# Altium integrated library Kondensator_DIP.IntLib: 1521 symbols (part 3 of 5)
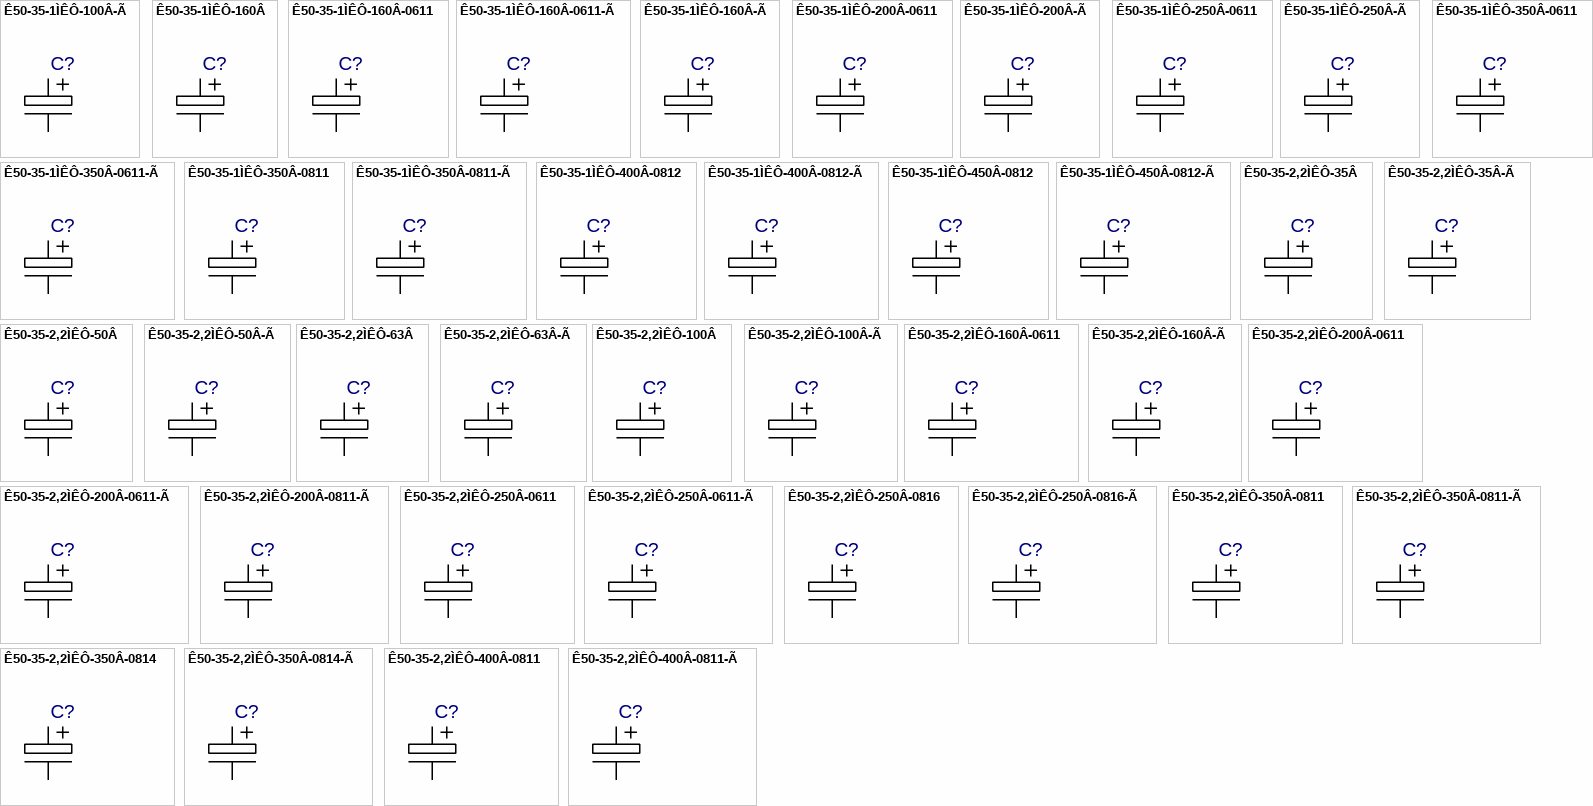
[diagram p40: symbols Ê50-35-1ÌÊÔ-100Â-Ã to Ê50-35-2,2ÌÊÔ-400Â-0811-Ã]

## Ê50-35-2,2ÌÊÔ-35Â-Ã
designator C?  (value not drawn)
Value: *
footprint Ê50-35-0511-Ã_K5035-1R
footprint Ê50-35-0511-Ã_K5035-1R1
footprint Ê50-35-0511-Ã_Primary
pins: 1, 2

## Ê50-35-2,2ÌÊÔ-50Â
designator C?  (value not drawn)
Value: *
footprint Ê50-35-0511_K5035-1R
footprint Ê50-35-0511_K5035-1R1
footprint Ê50-35-0511_Primary
pins: 1, 2

## Ê50-35-2,2ÌÊÔ-50Â-Ã
designator C?  (value not drawn)
Value: *
footprint Ê50-35-0511-Ã_K5035-1R
footprint Ê50-35-0511-Ã_K5035-1R1
footprint Ê50-35-0511-Ã_Primary
pins: 1, 2

## Ê50-35-2,2ÌÊÔ-63Â
designator C?  (value not drawn)
Value: *
footprint Ê50-35-0511_K5035-1R
footprint Ê50-35-0511_K5035-1R1
footprint Ê50-35-0511_Primary
pins: 1, 2

## Ê50-35-2,2ÌÊÔ-63Â-Ã
designator C?  (value not drawn)
Value: *
footprint Ê50-35-0511-Ã_K5035-1R
footprint Ê50-35-0511-Ã_K5035-1R1
footprint Ê50-35-0511-Ã_Primary
pins: 1, 2

## Ê50-35-2,2ÌÊÔ-100Â
designator C?  (value not drawn)
Value: *
footprint Ê50-35-0511_K5035-1R
footprint Ê50-35-0511_K5035-1R1
footprint Ê50-35-0511_Primary
pins: 1, 2

## Ê50-35-2,2ÌÊÔ-100Â-Ã
designator C?  (value not drawn)
Value: *
footprint Ê50-35-0511-Ã_K5035-1R
footprint Ê50-35-0511-Ã_K5035-1R1
footprint Ê50-35-0511-Ã_Primary
pins: 1, 2

## Ê50-35-2,2ÌÊÔ-160Â-0611
designator C?  (value not drawn)
Value: *
footprint Ê50-35-0611_K5035-1R
footprint Ê50-35-0611_K5035-1R1
footprint Ê50-35-0611_Primary
pins: 1, 2

## Ê50-35-2,2ÌÊÔ-160Â-Ã
designator C?  (value not drawn)
Value: *
footprint Ê50-35-0611-Ã_K5035-1R
footprint Ê50-35-0611-Ã_K5035-1R1
footprint Ê50-35-0611-Ã_Primary
pins: 1, 2

## Ê50-35-2,2ÌÊÔ-200Â-0611
designator C?  (value not drawn)
Value: *
footprint Ê50-35-0611_K5035-1R
footprint Ê50-35-0611_K5035-1R1
footprint Ê50-35-0611_Primary
pins: 1, 2

## Ê50-35-2,2ÌÊÔ-200Â-0611-Ã
designator C?  (value not drawn)
Value: *
footprint Ê50-35-0611-Ã_K5035-1R
footprint Ê50-35-0611-Ã_K5035-1R1
footprint Ê50-35-0611-Ã_Primary
pins: 1, 2

## Ê50-35-2,2ÌÊÔ-200Â-0811-Ã
designator C?  (value not drawn)
Value: *
footprint Ê50-35-08XX-Ã_K5035-2R
footprint Ê50-35-08XX-Ã_K5035-2R1
footprint Ê50-35-08XX-Ã_Primary
pins: 1, 2

## Ê50-35-2,2ÌÊÔ-250Â-0611
designator C?  (value not drawn)
Value: *
footprint Ê50-35-0611_K5035-1R
footprint Ê50-35-0611_K5035-1R1
footprint Ê50-35-0611_Primary
pins: 1, 2

## Ê50-35-2,2ÌÊÔ-250Â-0611-Ã
designator C?  (value not drawn)
Value: *
footprint Ê50-35-0611-Ã_K5035-1R
footprint Ê50-35-0611-Ã_K5035-1R1
footprint Ê50-35-0611-Ã_Primary
pins: 1, 2

## Ê50-35-2,2ÌÊÔ-250Â-0816
designator C?  (value not drawn)
Value: *
footprint R50-35-08XX_K5035-2R
footprint R50-35-08XX_K5035-2R1
footprint R50-35-08XX_Primary
pins: 1, 2

## Ê50-35-2,2ÌÊÔ-250Â-0816-Ã
designator C?  (value not drawn)
Value: *
footprint Ê50-35-08XX-Ã_K5035-2R
footprint Ê50-35-08XX-Ã_K5035-2R1
footprint Ê50-35-08XX-Ã_Primary
pins: 1, 2

## Ê50-35-2,2ÌÊÔ-350Â-0811
designator C?  (value not drawn)
Value: *
footprint R50-35-08XX_K5035-2R
footprint R50-35-08XX_K5035-2R1
footprint R50-35-08XX_Primary
pins: 1, 2

## Ê50-35-2,2ÌÊÔ-350Â-0811-Ã
designator C?  (value not drawn)
Value: *
footprint Ê50-35-08XX-Ã_K5035-2R
footprint Ê50-35-08XX-Ã_K5035-2R1
footprint Ê50-35-08XX-Ã_Primary
pins: 1, 2

## Ê50-35-2,2ÌÊÔ-350Â-0814
designator C?  (value not drawn)
Value: *
footprint R50-35-08XX_K5035-2R
footprint R50-35-08XX_K5035-2R1
footprint R50-35-08XX_Primary
pins: 1, 2

## Ê50-35-2,2ÌÊÔ-350Â-0814-Ã
designator C?  (value not drawn)
Value: *
footprint Ê50-35-08XX-Ã_K5035-2R
footprint Ê50-35-08XX-Ã_K5035-2R1
footprint Ê50-35-08XX-Ã_Primary
pins: 1, 2

## Ê50-35-2,2ÌÊÔ-400Â-0811
designator C?  (value not drawn)
Value: *
footprint R50-35-08XX_K5035-2R
footprint R50-35-08XX_K5035-2R1
footprint R50-35-08XX_Primary
pins: 1, 2

## Ê50-35-2,2ÌÊÔ-400Â-0811-Ã
designator C?  (value not drawn)
Value: *
footprint Ê50-35-08XX-Ã_K5035-2R
footprint Ê50-35-08XX-Ã_K5035-2R1
footprint Ê50-35-08XX-Ã_Primary
pins: 1, 2

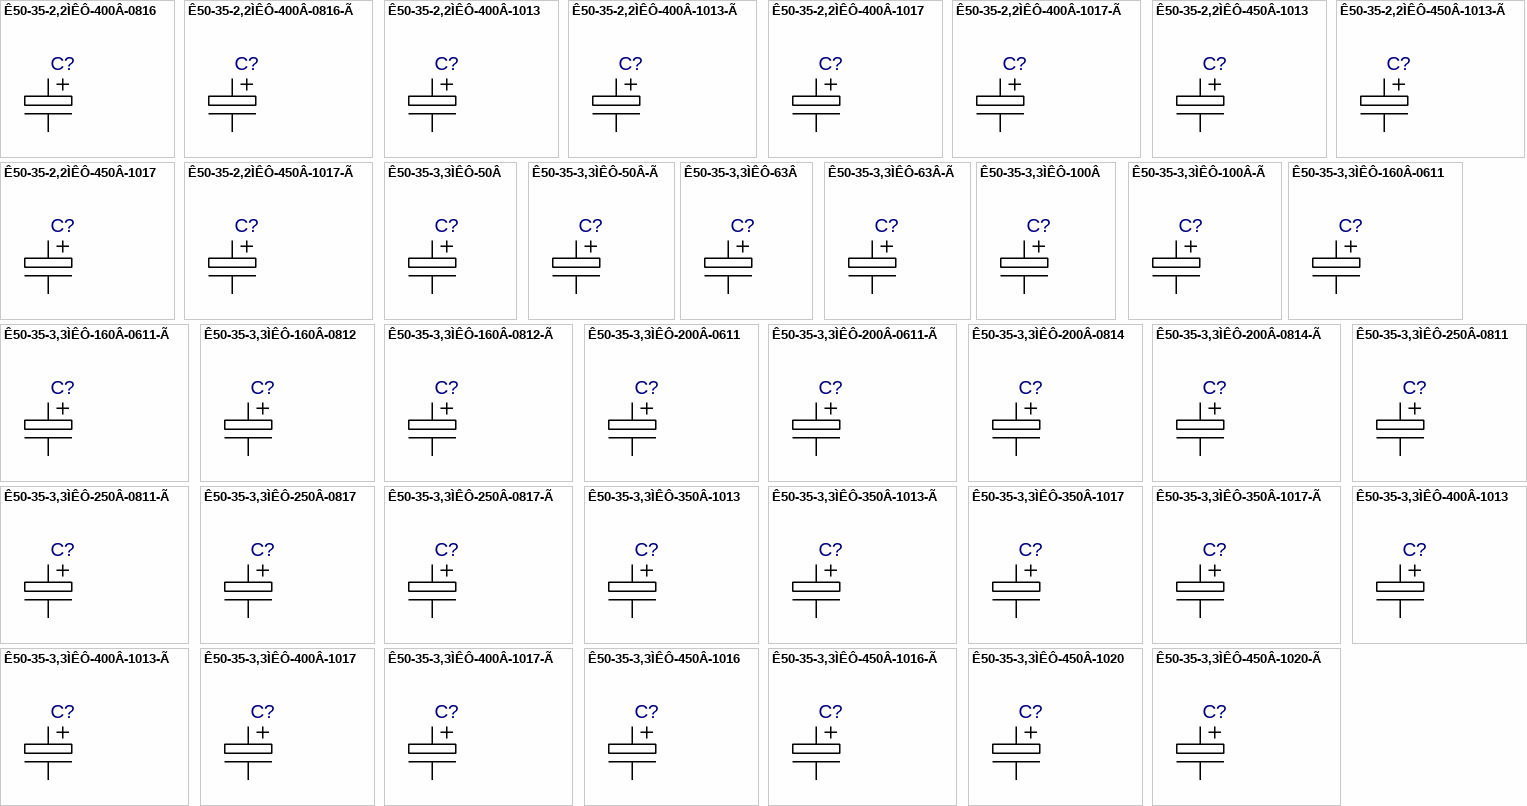
[diagram p23: symbols Ê50-35-2,2ÌÊÔ-400Â-0816 to Ê50-35-3,3ÌÊÔ-450Â-1020-Ã]

## Ê50-35-2,2ÌÊÔ-400Â-0816
designator C?  (value not drawn)
Value: *
footprint R50-35-08XX_K5035-2R
footprint R50-35-08XX_K5035-2R1
footprint R50-35-08XX_Primary
pins: 1, 2

## Ê50-35-2,2ÌÊÔ-400Â-0816-Ã
designator C?  (value not drawn)
Value: *
footprint Ê50-35-08XX-Ã_K5035-2R
footprint Ê50-35-08XX-Ã_K5035-2R1
footprint Ê50-35-08XX-Ã_Primary
pins: 1, 2

## Ê50-35-2,2ÌÊÔ-400Â-1013
designator C?  (value not drawn)
Value: *
footprint Ê50-35-1020_K5035-1R
footprint Ê50-35-1020_K5035-1R1
footprint Ê50-35-1020_Primary
pins: 1, 2

## Ê50-35-2,2ÌÊÔ-400Â-1013-Ã
designator C?  (value not drawn)
Value: *
footprint Ê50-35-1020-Ã_K5035-1R
footprint Ê50-35-1020-Ã_K5035-1R1
footprint Ê50-35-1020-Ã_Primary
pins: 1, 2

## Ê50-35-2,2ÌÊÔ-400Â-1017
designator C?  (value not drawn)
Value: *
footprint Ê50-35-1020_K5035-1R
footprint Ê50-35-1020_K5035-1R1
footprint Ê50-35-1020_Primary
pins: 1, 2

## Ê50-35-2,2ÌÊÔ-400Â-1017-Ã
designator C?  (value not drawn)
Value: *
footprint Ê50-35-1020-Ã_K5035-1R
footprint Ê50-35-1020-Ã_K5035-1R1
footprint Ê50-35-1020-Ã_Primary
pins: 1, 2

## Ê50-35-2,2ÌÊÔ-450Â-1013
designator C?  (value not drawn)
Value: *
footprint Ê50-35-1020_K5035-1R
footprint Ê50-35-1020_K5035-1R1
footprint Ê50-35-1020_Primary
pins: 1, 2

## Ê50-35-2,2ÌÊÔ-450Â-1013-Ã
designator C?  (value not drawn)
Value: *
footprint Ê50-35-1020-Ã_K5035-1R
footprint Ê50-35-1020-Ã_K5035-1R1
footprint Ê50-35-1020-Ã_Primary
pins: 1, 2

## Ê50-35-2,2ÌÊÔ-450Â-1017
designator C?  (value not drawn)
Value: *
footprint Ê50-35-1020_K5035-1R
footprint Ê50-35-1020_K5035-1R1
footprint Ê50-35-1020_Primary
pins: 1, 2

## Ê50-35-2,2ÌÊÔ-450Â-1017-Ã
designator C?  (value not drawn)
Value: *
footprint Ê50-35-1020-Ã_K5035-1R
footprint Ê50-35-1020-Ã_K5035-1R1
footprint Ê50-35-1020-Ã_Primary
pins: 1, 2

## Ê50-35-3,3ÌÊÔ-50Â
designator C?  (value not drawn)
Value: *
footprint Ê50-35-0511_K5035-1R
footprint Ê50-35-0511_K5035-1R1
footprint Ê50-35-0511_Primary
pins: 1, 2

## Ê50-35-3,3ÌÊÔ-50Â-Ã
designator C?  (value not drawn)
Value: *
footprint Ê50-35-0511-Ã_K5035-1R
footprint Ê50-35-0511-Ã_K5035-1R1
footprint Ê50-35-0511-Ã_Primary
pins: 1, 2

## Ê50-35-3,3ÌÊÔ-63Â
designator C?  (value not drawn)
Value: *
footprint Ê50-35-0511_K5035-1R
footprint Ê50-35-0511_K5035-1R1
footprint Ê50-35-0511_Primary
pins: 1, 2

## Ê50-35-3,3ÌÊÔ-63Â-Ã
designator C?  (value not drawn)
Value: *
footprint Ê50-35-0511-Ã_K5035-1R
footprint Ê50-35-0511-Ã_K5035-1R1
footprint Ê50-35-0511-Ã_Primary
pins: 1, 2

## Ê50-35-3,3ÌÊÔ-100Â
designator C?  (value not drawn)
Value: *
footprint Ê50-35-0511_K5035-1R
footprint Ê50-35-0511_K5035-1R1
footprint Ê50-35-0511_Primary
pins: 1, 2

## Ê50-35-3,3ÌÊÔ-100Â-Ã
designator C?  (value not drawn)
Value: *
footprint Ê50-35-0511-Ã_K5035-1R
footprint Ê50-35-0511-Ã_K5035-1R1
footprint Ê50-35-0511-Ã_Primary
pins: 1, 2

## Ê50-35-3,3ÌÊÔ-160Â-0611
designator C?  (value not drawn)
Value: *
footprint Ê50-35-0611_K5035-1R
footprint Ê50-35-0611_K5035-1R1
footprint Ê50-35-0611_Primary
pins: 1, 2

## Ê50-35-3,3ÌÊÔ-160Â-0611-Ã
designator C?  (value not drawn)
Value: *
footprint Ê50-35-0611-Ã_K5035-1R
footprint Ê50-35-0611-Ã_K5035-1R1
footprint Ê50-35-0611-Ã_Primary
pins: 1, 2

## Ê50-35-3,3ÌÊÔ-160Â-0812
designator C?  (value not drawn)
Value: *
footprint R50-35-08XX_K5035-2R
footprint R50-35-08XX_K5035-2R1
footprint R50-35-08XX_Primary
pins: 1, 2

## Ê50-35-3,3ÌÊÔ-160Â-0812-Ã
designator C?  (value not drawn)
Value: *
footprint Ê50-35-08XX-Ã_K5035-2R
footprint Ê50-35-08XX-Ã_K5035-2R1
footprint Ê50-35-08XX-Ã_Primary
pins: 1, 2

## Ê50-35-3,3ÌÊÔ-200Â-0611
designator C?  (value not drawn)
Value: *
footprint Ê50-35-0611_K5035-1R
footprint Ê50-35-0611_K5035-1R1
footprint Ê50-35-0611_Primary
pins: 1, 2

## Ê50-35-3,3ÌÊÔ-200Â-0611-Ã
designator C?  (value not drawn)
Value: *
footprint Ê50-35-0611-Ã_K5035-1R
footprint Ê50-35-0611-Ã_K5035-1R1
footprint Ê50-35-0611-Ã_Primary
pins: 1, 2

## Ê50-35-3,3ÌÊÔ-200Â-0814
designator C?  (value not drawn)
Value: *
footprint R50-35-08XX_K5035-2R
footprint R50-35-08XX_K5035-2R1
footprint R50-35-08XX_Primary
pins: 1, 2

## Ê50-35-3,3ÌÊÔ-200Â-0814-Ã
designator C?  (value not drawn)
Value: *
footprint Ê50-35-08XX-Ã_K5035-2R
footprint Ê50-35-08XX-Ã_K5035-2R1
footprint Ê50-35-08XX-Ã_Primary
pins: 1, 2

## Ê50-35-3,3ÌÊÔ-250Â-0811
designator C?  (value not drawn)
Value: *
footprint R50-35-08XX_K5035-2R
footprint R50-35-08XX_K5035-2R1
footprint R50-35-08XX_Primary
pins: 1, 2

## Ê50-35-3,3ÌÊÔ-250Â-0811-Ã
designator C?  (value not drawn)
Value: *
footprint Ê50-35-08XX-Ã_K5035-2R
footprint Ê50-35-08XX-Ã_K5035-2R1
footprint Ê50-35-08XX-Ã_Primary
pins: 1, 2

## Ê50-35-3,3ÌÊÔ-250Â-0817
designator C?  (value not drawn)
Value: *
footprint R50-35-08XX_K5035-2R
footprint R50-35-08XX_K5035-2R1
footprint R50-35-08XX_Primary
pins: 1, 2

## Ê50-35-3,3ÌÊÔ-250Â-0817-Ã
designator C?  (value not drawn)
Value: *
footprint Ê50-35-08XX-Ã_K5035-2R
footprint Ê50-35-08XX-Ã_K5035-2R1
footprint Ê50-35-08XX-Ã_Primary
pins: 1, 2

## Ê50-35-3,3ÌÊÔ-350Â-1013
designator C?  (value not drawn)
Value: *
footprint Ê50-35-1020_K5035-1R
footprint Ê50-35-1020_K5035-1R1
footprint Ê50-35-1020_Primary
pins: 1, 2

## Ê50-35-3,3ÌÊÔ-350Â-1013-Ã
designator C?  (value not drawn)
Value: *
footprint Ê50-35-1020-Ã_K5035-1R
footprint Ê50-35-1020-Ã_K5035-1R1
footprint Ê50-35-1020-Ã_Primary
pins: 1, 2

## Ê50-35-3,3ÌÊÔ-350Â-1017
designator C?  (value not drawn)
Value: *
footprint Ê50-35-1020_K5035-1R
footprint Ê50-35-1020_K5035-1R1
footprint Ê50-35-1020_Primary
pins: 1, 2

## Ê50-35-3,3ÌÊÔ-350Â-1017-Ã
designator C?  (value not drawn)
Value: *
footprint Ê50-35-1020-Ã_K5035-1R
footprint Ê50-35-1020-Ã_K5035-1R1
footprint Ê50-35-1020-Ã_Primary
pins: 1, 2

## Ê50-35-3,3ÌÊÔ-400Â-1013
designator C?  (value not drawn)
Value: *
footprint Ê50-35-1020_K5035-1R
footprint Ê50-35-1020_K5035-1R1
footprint Ê50-35-1020_Primary
pins: 1, 2

## Ê50-35-3,3ÌÊÔ-400Â-1013-Ã
designator C?  (value not drawn)
Value: *
footprint Ê50-35-1020-Ã_K5035-1R
footprint Ê50-35-1020-Ã_K5035-1R1
footprint Ê50-35-1020-Ã_Primary
pins: 1, 2

## Ê50-35-3,3ÌÊÔ-400Â-1017
designator C?  (value not drawn)
Value: *
footprint Ê50-35-1020_K5035-1R
footprint Ê50-35-1020_K5035-1R1
footprint Ê50-35-1020_Primary
pins: 1, 2

## Ê50-35-3,3ÌÊÔ-400Â-1017-Ã
designator C?  (value not drawn)
Value: *
footprint Ê50-35-1020-Ã_K5035-1R
footprint Ê50-35-1020-Ã_K5035-1R1
footprint Ê50-35-1020-Ã_Primary
pins: 1, 2

## Ê50-35-3,3ÌÊÔ-450Â-1016
designator C?  (value not drawn)
Value: *
footprint Ê50-35-1020_K5035-1R
footprint Ê50-35-1020_K5035-1R1
footprint Ê50-35-1020_Primary
pins: 1, 2

## Ê50-35-3,3ÌÊÔ-450Â-1016-Ã
designator C?  (value not drawn)
Value: *
footprint Ê50-35-1020-Ã_K5035-1R
footprint Ê50-35-1020-Ã_K5035-1R1
footprint Ê50-35-1020-Ã_Primary
pins: 1, 2

## Ê50-35-3,3ÌÊÔ-450Â-1020
designator C?  (value not drawn)
Value: *
footprint Ê50-35-1020_K5035-1R
footprint Ê50-35-1020_K5035-1R1
footprint Ê50-35-1020_Primary
pins: 1, 2

## Ê50-35-3,3ÌÊÔ-450Â-1020-Ã
designator C?  (value not drawn)
Value: *
footprint Ê50-35-1020-Ã_K5035-1R
footprint Ê50-35-1020-Ã_K5035-1R1
footprint Ê50-35-1020-Ã_Primary
pins: 1, 2

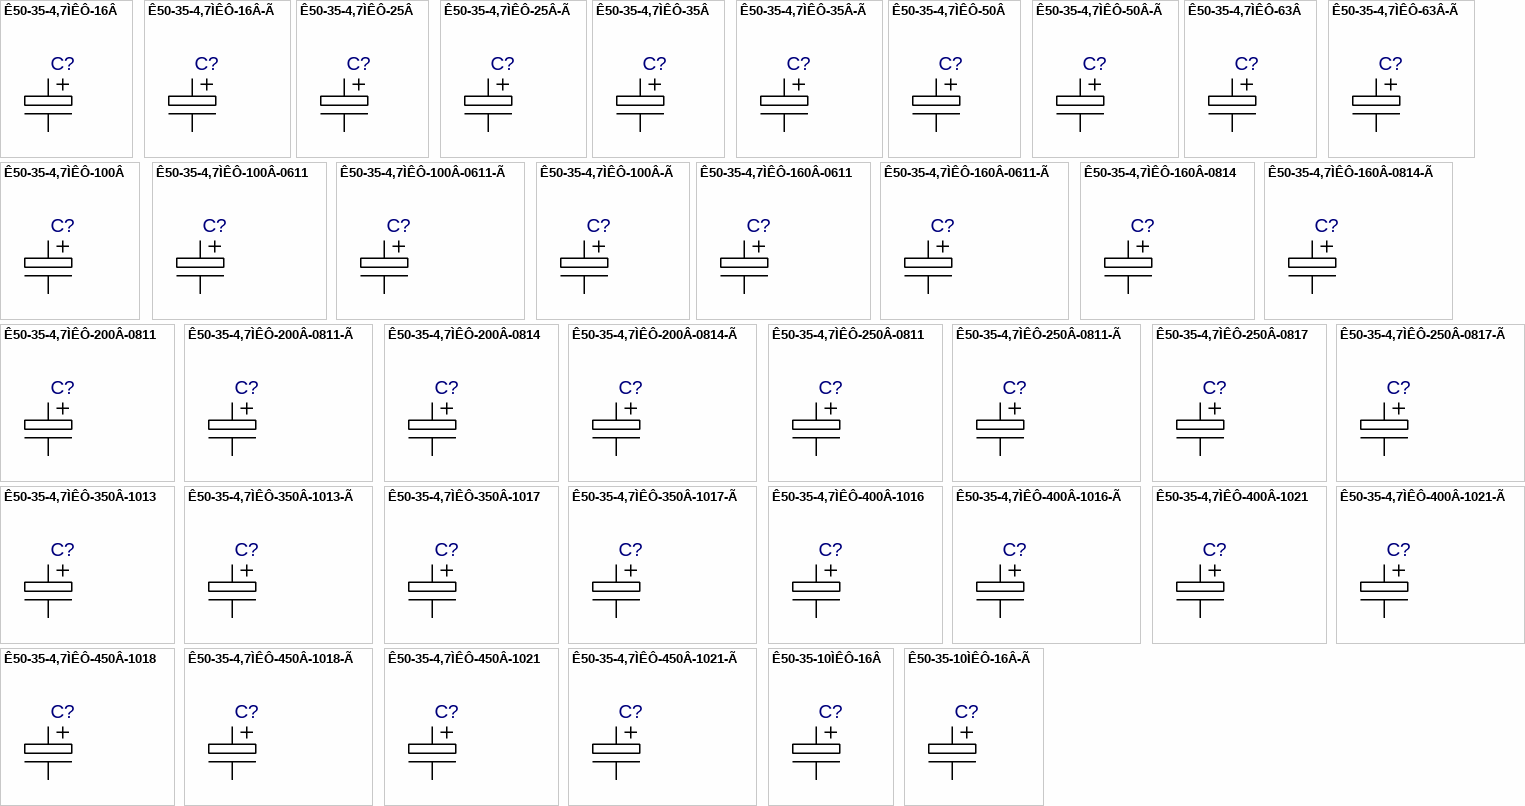
[diagram p24: symbols Ê50-35-4,7ÌÊÔ-16Â to Ê50-35-10ÌÊÔ-16Â-Ã]

## Ê50-35-4,7ÌÊÔ-16Â
designator C?  (value not drawn)
Value: *
footprint Ê50-35-0511_K5035-1R
footprint Ê50-35-0511_K5035-1R1
footprint Ê50-35-0511_Primary
pins: 1, 2

## Ê50-35-4,7ÌÊÔ-16Â-Ã
designator C?  (value not drawn)
Value: *
footprint Ê50-35-0511-Ã_K5035-1R
footprint Ê50-35-0511-Ã_K5035-1R1
footprint Ê50-35-0511-Ã_Primary
pins: 1, 2

## Ê50-35-4,7ÌÊÔ-25Â
designator C?  (value not drawn)
Value: *
footprint Ê50-35-0511_K5035-1R
footprint Ê50-35-0511_K5035-1R1
footprint Ê50-35-0511_Primary
pins: 1, 2

## Ê50-35-4,7ÌÊÔ-25Â-Ã
designator C?  (value not drawn)
Value: *
footprint Ê50-35-0511-Ã_K5035-1R
footprint Ê50-35-0511-Ã_K5035-1R1
footprint Ê50-35-0511-Ã_Primary
pins: 1, 2

## Ê50-35-4,7ÌÊÔ-35Â
designator C?  (value not drawn)
Value: *
footprint Ê50-35-0511_K5035-1R
footprint Ê50-35-0511_K5035-1R1
footprint Ê50-35-0511_Primary
pins: 1, 2

## Ê50-35-4,7ÌÊÔ-35Â-Ã
designator C?  (value not drawn)
Value: *
footprint Ê50-35-0511-Ã_K5035-1R
footprint Ê50-35-0511-Ã_K5035-1R1
footprint Ê50-35-0511-Ã_Primary
pins: 1, 2

## Ê50-35-4,7ÌÊÔ-50Â
designator C?  (value not drawn)
Value: *
footprint Ê50-35-0511_K5035-1R
footprint Ê50-35-0511_K5035-1R1
footprint Ê50-35-0511_Primary
pins: 1, 2

## Ê50-35-4,7ÌÊÔ-50Â-Ã
designator C?  (value not drawn)
Value: *
footprint Ê50-35-0511-Ã_K5035-1R
footprint Ê50-35-0511-Ã_K5035-1R1
footprint Ê50-35-0511-Ã_Primary
pins: 1, 2

## Ê50-35-4,7ÌÊÔ-63Â
designator C?  (value not drawn)
Value: *
footprint Ê50-35-0511_K5035-1R
footprint Ê50-35-0511_K5035-1R1
footprint Ê50-35-0511_Primary
pins: 1, 2

## Ê50-35-4,7ÌÊÔ-63Â-Ã
designator C?  (value not drawn)
Value: *
footprint Ê50-35-0511-Ã_K5035-1R
footprint Ê50-35-0511-Ã_K5035-1R1
footprint Ê50-35-0511-Ã_Primary
pins: 1, 2

## Ê50-35-4,7ÌÊÔ-100Â
designator C?  (value not drawn)
Value: *
footprint Ê50-35-0511_K5035-1R
footprint Ê50-35-0511_K5035-1R1
footprint Ê50-35-0511_Primary
pins: 1, 2

## Ê50-35-4,7ÌÊÔ-100Â-0611
designator C?  (value not drawn)
Value: *
footprint Ê50-35-0611_K5035-1R
footprint Ê50-35-0611_K5035-1R1
footprint Ê50-35-0611_Primary
pins: 1, 2

## Ê50-35-4,7ÌÊÔ-100Â-0611-Ã
designator C?  (value not drawn)
Value: *
footprint Ê50-35-0611-Ã_K5035-1R
footprint Ê50-35-0611-Ã_K5035-1R1
footprint Ê50-35-0611-Ã_Primary
pins: 1, 2

## Ê50-35-4,7ÌÊÔ-100Â-Ã
designator C?  (value not drawn)
Value: *
footprint Ê50-35-0511-Ã_K5035-1R
footprint Ê50-35-0511-Ã_K5035-1R1
footprint Ê50-35-0511-Ã_Primary
pins: 1, 2

## Ê50-35-4,7ÌÊÔ-160Â-0611
designator C?  (value not drawn)
Value: *
footprint Ê50-35-0611_K5035-1R
footprint Ê50-35-0611_K5035-1R1
footprint Ê50-35-0611_Primary
pins: 1, 2

## Ê50-35-4,7ÌÊÔ-160Â-0611-Ã
designator C?  (value not drawn)
Value: *
footprint Ê50-35-0611-Ã_K5035-1R
footprint Ê50-35-0611-Ã_K5035-1R1
footprint Ê50-35-0611-Ã_Primary
pins: 1, 2

## Ê50-35-4,7ÌÊÔ-160Â-0814
designator C?  (value not drawn)
Value: *
footprint R50-35-08XX_K5035-2R
footprint R50-35-08XX_K5035-2R1
footprint R50-35-08XX_Primary
pins: 1, 2

## Ê50-35-4,7ÌÊÔ-160Â-0814-Ã
designator C?  (value not drawn)
Value: *
footprint Ê50-35-08XX-Ã_K5035-2R
footprint Ê50-35-08XX-Ã_K5035-2R1
footprint Ê50-35-08XX-Ã_Primary
pins: 1, 2

## Ê50-35-4,7ÌÊÔ-200Â-0811
designator C?  (value not drawn)
Value: *
footprint R50-35-08XX_K5035-2R
footprint R50-35-08XX_K5035-2R1
footprint R50-35-08XX_Primary
pins: 1, 2

## Ê50-35-4,7ÌÊÔ-200Â-0811-Ã
designator C?  (value not drawn)
Value: *
footprint Ê50-35-08XX-Ã_K5035-2R
footprint Ê50-35-08XX-Ã_K5035-2R1
footprint Ê50-35-08XX-Ã_Primary
pins: 1, 2

## Ê50-35-4,7ÌÊÔ-200Â-0814
designator C?  (value not drawn)
Value: *
footprint R50-35-08XX_K5035-2R
footprint R50-35-08XX_K5035-2R1
footprint R50-35-08XX_Primary
pins: 1, 2

## Ê50-35-4,7ÌÊÔ-200Â-0814-Ã
designator C?  (value not drawn)
Value: *
footprint Ê50-35-08XX-Ã_K5035-2R
footprint Ê50-35-08XX-Ã_K5035-2R1
footprint Ê50-35-08XX-Ã_Primary
pins: 1, 2

## Ê50-35-4,7ÌÊÔ-250Â-0811
designator C?  (value not drawn)
Value: *
footprint R50-35-08XX_K5035-2R
footprint R50-35-08XX_K5035-2R1
footprint R50-35-08XX_Primary
pins: 1, 2

## Ê50-35-4,7ÌÊÔ-250Â-0811-Ã
designator C?  (value not drawn)
Value: *
footprint Ê50-35-08XX-Ã_K5035-2R
footprint Ê50-35-08XX-Ã_K5035-2R1
footprint Ê50-35-08XX-Ã_Primary
pins: 1, 2

## Ê50-35-4,7ÌÊÔ-250Â-0817
designator C?  (value not drawn)
Value: *
footprint R50-35-08XX_K5035-2R
footprint R50-35-08XX_K5035-2R1
footprint R50-35-08XX_Primary
pins: 1, 2

## Ê50-35-4,7ÌÊÔ-250Â-0817-Ã
designator C?  (value not drawn)
Value: *
footprint Ê50-35-08XX-Ã_K5035-2R
footprint Ê50-35-08XX-Ã_K5035-2R1
footprint Ê50-35-08XX-Ã_Primary
pins: 1, 2

## Ê50-35-4,7ÌÊÔ-350Â-1013
designator C?  (value not drawn)
Value: *
footprint Ê50-35-1020_K5035-1R
footprint Ê50-35-1020_K5035-1R1
footprint Ê50-35-1020_Primary
pins: 1, 2

## Ê50-35-4,7ÌÊÔ-350Â-1013-Ã
designator C?  (value not drawn)
Value: *
footprint Ê50-35-1020-Ã_K5035-1R
footprint Ê50-35-1020-Ã_K5035-1R1
footprint Ê50-35-1020-Ã_Primary
pins: 1, 2

## Ê50-35-4,7ÌÊÔ-350Â-1017
designator C?  (value not drawn)
Value: *
footprint Ê50-35-1020_K5035-1R
footprint Ê50-35-1020_K5035-1R1
footprint Ê50-35-1020_Primary
pins: 1, 2

## Ê50-35-4,7ÌÊÔ-350Â-1017-Ã
designator C?  (value not drawn)
Value: *
footprint Ê50-35-1020-Ã_K5035-1R
footprint Ê50-35-1020-Ã_K5035-1R1
footprint Ê50-35-1020-Ã_Primary
pins: 1, 2

## Ê50-35-4,7ÌÊÔ-400Â-1016
designator C?  (value not drawn)
Value: *
footprint Ê50-35-1020_K5035-1R
footprint Ê50-35-1020_K5035-1R1
footprint Ê50-35-1020_Primary
pins: 1, 2

## Ê50-35-4,7ÌÊÔ-400Â-1016-Ã
designator C?  (value not drawn)
Value: *
footprint Ê50-35-1020-Ã_K5035-1R
footprint Ê50-35-1020-Ã_K5035-1R1
footprint Ê50-35-1020-Ã_Primary
pins: 1, 2

## Ê50-35-4,7ÌÊÔ-400Â-1021
designator C?  (value not drawn)
Value: *
footprint Ê50-35-1020_K5035-1R
footprint Ê50-35-1020_K5035-1R1
footprint Ê50-35-1020_Primary
pins: 1, 2

## Ê50-35-4,7ÌÊÔ-400Â-1021-Ã
designator C?  (value not drawn)
Value: *
footprint Ê50-35-1020-Ã_K5035-1R
footprint Ê50-35-1020-Ã_K5035-1R1
footprint Ê50-35-1020-Ã_Primary
pins: 1, 2

## Ê50-35-4,7ÌÊÔ-450Â-1018
designator C?  (value not drawn)
Value: *
footprint Ê50-35-1020_K5035-1R
footprint Ê50-35-1020_K5035-1R1
footprint Ê50-35-1020_Primary
pins: 1, 2

## Ê50-35-4,7ÌÊÔ-450Â-1018-Ã
designator C?  (value not drawn)
Value: *
footprint Ê50-35-1020-Ã_K5035-1R
footprint Ê50-35-1020-Ã_K5035-1R1
footprint Ê50-35-1020-Ã_Primary
pins: 1, 2

## Ê50-35-4,7ÌÊÔ-450Â-1021
designator C?  (value not drawn)
Value: *
footprint Ê50-35-1020_K5035-1R
footprint Ê50-35-1020_K5035-1R1
footprint Ê50-35-1020_Primary
pins: 1, 2

## Ê50-35-4,7ÌÊÔ-450Â-1021-Ã
designator C?  (value not drawn)
Value: *
footprint Ê50-35-1020-Ã_K5035-1R
footprint Ê50-35-1020-Ã_K5035-1R1
footprint Ê50-35-1020-Ã_Primary
pins: 1, 2

## Ê50-35-10ÌÊÔ-16Â
designator C?  (value not drawn)
Value: *
footprint Ê50-35-0511_K5035-1R
footprint Ê50-35-0511_K5035-1R1
footprint Ê50-35-0511_Primary
pins: 1, 2

## Ê50-35-10ÌÊÔ-16Â-Ã
designator C?  (value not drawn)
Value: *
footprint Ê50-35-0511-Ã_K5035-1R
footprint Ê50-35-0511-Ã_K5035-1R1
footprint Ê50-35-0511-Ã_Primary
pins: 1, 2

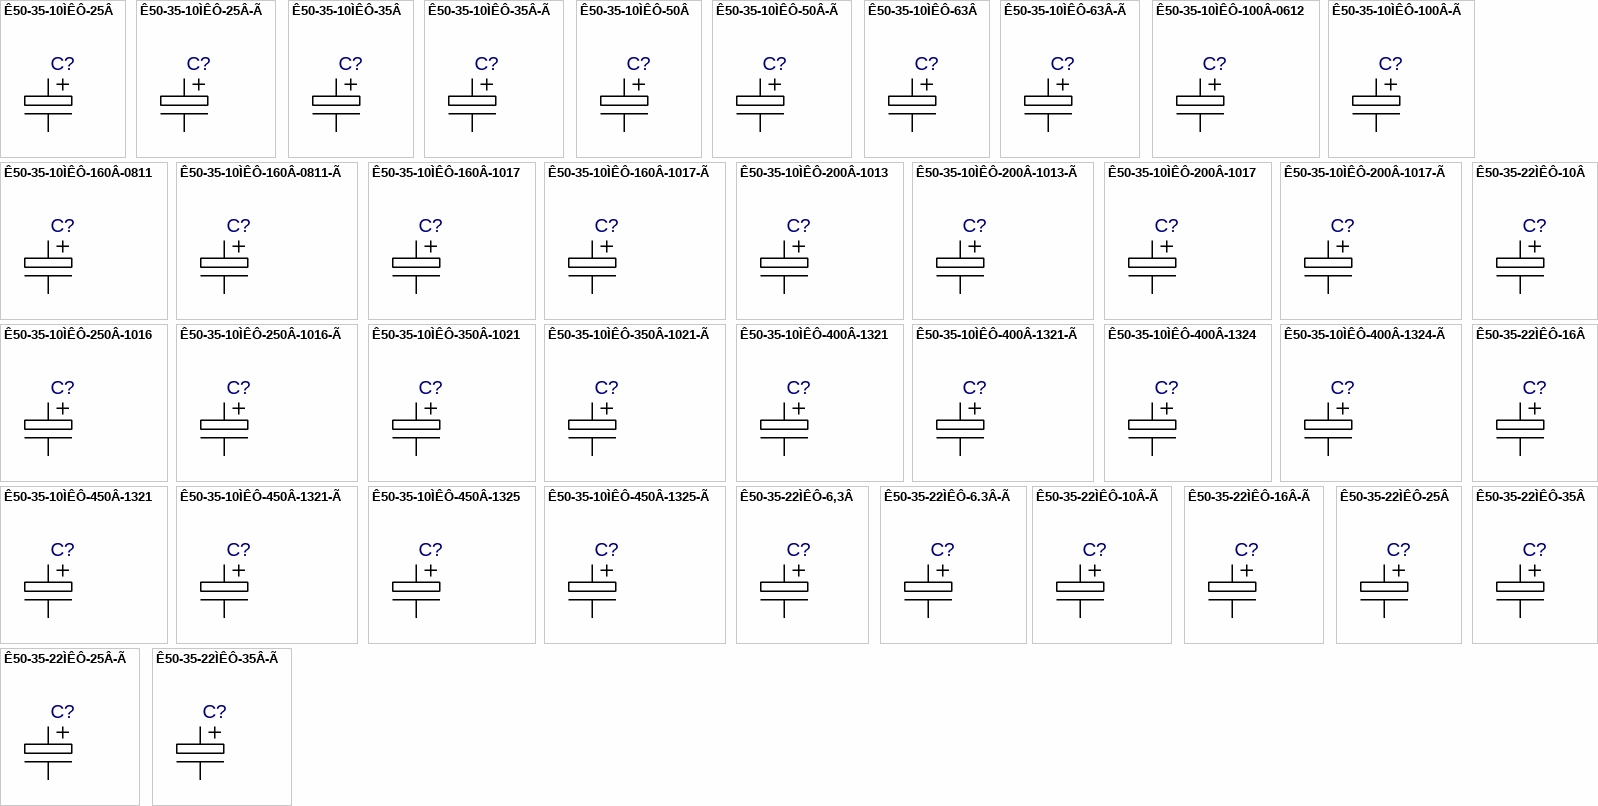
[diagram p25: symbols Ê50-35-10ÌÊÔ-25Â to Ê50-35-22ÌÊÔ-35Â-Ã]

## Ê50-35-10ÌÊÔ-25Â
designator C?  (value not drawn)
Value: *
footprint Ê50-35-0511_K5035-1R
footprint Ê50-35-0511_K5035-1R1
footprint Ê50-35-0511_Primary
pins: 1, 2

## Ê50-35-10ÌÊÔ-25Â-Ã
designator C?  (value not drawn)
Value: *
footprint Ê50-35-0511-Ã_K5035-1R
footprint Ê50-35-0511-Ã_K5035-1R1
footprint Ê50-35-0511-Ã_Primary
pins: 1, 2

## Ê50-35-10ÌÊÔ-35Â
designator C?  (value not drawn)
Value: *
footprint Ê50-35-0511_K5035-1R
footprint Ê50-35-0511_K5035-1R1
footprint Ê50-35-0511_Primary
pins: 1, 2

## Ê50-35-10ÌÊÔ-35Â-Ã
designator C?  (value not drawn)
Value: *
footprint Ê50-35-0511-Ã_K5035-1R
footprint Ê50-35-0511-Ã_K5035-1R1
footprint Ê50-35-0511-Ã_Primary
pins: 1, 2

## Ê50-35-10ÌÊÔ-50Â
designator C?  (value not drawn)
Value: *
footprint Ê50-35-0511_K5035-1R
footprint Ê50-35-0511_K5035-1R1
footprint Ê50-35-0511_Primary
pins: 1, 2

## Ê50-35-10ÌÊÔ-50Â-Ã
designator C?  (value not drawn)
Value: *
footprint Ê50-35-0511-Ã_K5035-1R
footprint Ê50-35-0511-Ã_K5035-1R1
footprint Ê50-35-0511-Ã_Primary
pins: 1, 2

## Ê50-35-10ÌÊÔ-63Â
designator C?  (value not drawn)
Value: *
footprint Ê50-35-0511_K5035-1R
footprint Ê50-35-0511_K5035-1R1
footprint Ê50-35-0511_Primary
pins: 1, 2

## Ê50-35-10ÌÊÔ-63Â-Ã
designator C?  (value not drawn)
Value: *
footprint Ê50-35-0511-Ã_K5035-1R
footprint Ê50-35-0511-Ã_K5035-1R1
footprint Ê50-35-0511-Ã_Primary
pins: 1, 2

## Ê50-35-10ÌÊÔ-100Â-0612
designator C?  (value not drawn)
Value: *
footprint Ê50-35-0611_K5035-1R
footprint Ê50-35-0611_K5035-1R1
footprint Ê50-35-0611_Primary
pins: 1, 2

## Ê50-35-10ÌÊÔ-100Â-Ã
designator C?  (value not drawn)
Value: *
footprint Ê50-35-0611-Ã_K5035-1R
footprint Ê50-35-0611-Ã_K5035-1R1
footprint Ê50-35-0611-Ã_Primary
pins: 1, 2

## Ê50-35-10ÌÊÔ-160Â-0811
designator C?  (value not drawn)
Value: *
footprint R50-35-08XX_K5035-2R
footprint R50-35-08XX_K5035-2R1
footprint R50-35-08XX_Primary
pins: 1, 2

## Ê50-35-10ÌÊÔ-160Â-0811-Ã
designator C?  (value not drawn)
Value: *
footprint Ê50-35-08XX-Ã_K5035-2R
footprint Ê50-35-08XX-Ã_K5035-2R1
footprint Ê50-35-08XX-Ã_Primary
pins: 1, 2

## Ê50-35-10ÌÊÔ-160Â-1017
designator C?  (value not drawn)
Value: *
footprint Ê50-35-1020_K5035-1R
footprint Ê50-35-1020_K5035-1R1
footprint Ê50-35-1020_Primary
pins: 1, 2

## Ê50-35-10ÌÊÔ-160Â-1017-Ã
designator C?  (value not drawn)
Value: *
footprint Ê50-35-1020-Ã_K5035-1R
footprint Ê50-35-1020-Ã_K5035-1R1
footprint Ê50-35-1020-Ã_Primary
pins: 1, 2

## Ê50-35-10ÌÊÔ-200Â-1013
designator C?  (value not drawn)
Value: *
footprint Ê50-35-1020_K5035-1R
footprint Ê50-35-1020_K5035-1R1
footprint Ê50-35-1020_Primary
pins: 1, 2

## Ê50-35-10ÌÊÔ-200Â-1013-Ã
designator C?  (value not drawn)
Value: *
footprint Ê50-35-1020-Ã_K5035-1R
footprint Ê50-35-1020-Ã_K5035-1R1
footprint Ê50-35-1020-Ã_Primary
pins: 1, 2

## Ê50-35-10ÌÊÔ-200Â-1017
designator C?  (value not drawn)
Value: *
footprint Ê50-35-1020_K5035-1R
footprint Ê50-35-1020_K5035-1R1
footprint Ê50-35-1020_Primary
pins: 1, 2

## Ê50-35-10ÌÊÔ-200Â-1017-Ã
designator C?  (value not drawn)
Value: *
footprint Ê50-35-1020-Ã_K5035-1R
footprint Ê50-35-1020-Ã_K5035-1R1
footprint Ê50-35-1020-Ã_Primary
pins: 1, 2

## Ê50-35-10ÌÊÔ-250Â-1016
designator C?  (value not drawn)
Value: *
footprint Ê50-35-1020_K5035-1R
footprint Ê50-35-1020_K5035-1R1
footprint Ê50-35-1020_Primary
pins: 1, 2

## Ê50-35-10ÌÊÔ-250Â-1016-Ã
designator C?  (value not drawn)
Value: *
footprint Ê50-35-1020-Ã_K5035-1R
footprint Ê50-35-1020-Ã_K5035-1R1
footprint Ê50-35-1020-Ã_Primary
pins: 1, 2

## Ê50-35-10ÌÊÔ-350Â-1021
designator C?  (value not drawn)
Value: *
footprint Ê50-35-1020_K5035-1R
footprint Ê50-35-1020_K5035-1R1
footprint Ê50-35-1020_Primary
pins: 1, 2

## Ê50-35-10ÌÊÔ-350Â-1021-Ã
designator C?  (value not drawn)
Value: *
footprint Ê50-35-1020-Ã_K5035-1R
footprint Ê50-35-1020-Ã_K5035-1R1
footprint Ê50-35-1020-Ã_Primary
pins: 1, 2

## Ê50-35-10ÌÊÔ-400Â-1321
designator C?  (value not drawn)
Value: *
footprint Ê50-35-1320_K5035-1R
footprint Ê50-35-1320_K5035-1R1
footprint Ê50-35-1320_Primary
pins: 1, 2

## Ê50-35-10ÌÊÔ-400Â-1321-Ã
designator C?  (value not drawn)
Value: *
footprint Ê50-35-13XX-Ã_K5035-1R
footprint Ê50-35-13XX-Ã_K5035-1R1
footprint Ê50-35-13XX-Ã_Primary
pins: 1, 2

## Ê50-35-10ÌÊÔ-400Â-1324
designator C?  (value not drawn)
Value: *
footprint Ê50-35-1320_K5035-1R
footprint Ê50-35-1320_K5035-1R1
footprint Ê50-35-1320_Primary
pins: 1, 2

## Ê50-35-10ÌÊÔ-400Â-1324-Ã
designator C?  (value not drawn)
Value: *
footprint Ê50-35-13XX-Ã_K5035-1R
footprint Ê50-35-13XX-Ã_K5035-1R1
footprint Ê50-35-13XX-Ã_Primary
pins: 1, 2

## Ê50-35-10ÌÊÔ-450Â-1321
designator C?  (value not drawn)
Value: *
footprint Ê50-35-1320_K5035-1R
footprint Ê50-35-1320_K5035-1R1
footprint Ê50-35-1320_Primary
pins: 1, 2

## Ê50-35-10ÌÊÔ-450Â-1321-Ã
designator C?  (value not drawn)
Value: *
footprint Ê50-35-13XX-Ã_K5035-1R
footprint Ê50-35-13XX-Ã_K5035-1R1
footprint Ê50-35-13XX-Ã_Primary
pins: 1, 2

## Ê50-35-10ÌÊÔ-450Â-1325
designator C?  (value not drawn)
Value: *
footprint Ê50-35-1320_K5035-1R
footprint Ê50-35-1320_K5035-1R1
footprint Ê50-35-1320_Primary
pins: 1, 2

## Ê50-35-10ÌÊÔ-450Â-1325-Ã
designator C?  (value not drawn)
Value: *
footprint Ê50-35-13XX-Ã_K5035-1R
footprint Ê50-35-13XX-Ã_K5035-1R1
footprint Ê50-35-13XX-Ã_Primary
pins: 1, 2

## Ê50-35-22ÌÊÔ-6,3Â
designator C?  (value not drawn)
Value: *
footprint Ê50-35-0511_K5035-1R
footprint Ê50-35-0511_K5035-1R1
footprint Ê50-35-0511_Primary
pins: 1, 2

## Ê50-35-22ÌÊÔ-6.3Â-Ã
designator C?  (value not drawn)
Value: *
footprint Ê50-35-0511-Ã_K5035-1R
footprint Ê50-35-0511-Ã_K5035-1R1
footprint Ê50-35-0511-Ã_Primary
pins: 1, 2

## Ê50-35-22ÌÊÔ-10Â
designator C?  (value not drawn)
Value: *
footprint Ê50-35-0511_K5035-1R
footprint Ê50-35-0511_K5035-1R1
footprint Ê50-35-0511_Primary
pins: 1, 2

## Ê50-35-22ÌÊÔ-10Â-Ã
designator C?  (value not drawn)
Value: *
footprint Ê50-35-0511-Ã_K5035-1R
footprint Ê50-35-0511-Ã_K5035-1R1
footprint Ê50-35-0511-Ã_Primary
pins: 1, 2

## Ê50-35-22ÌÊÔ-16Â
designator C?  (value not drawn)
Value: *
footprint Ê50-35-0511_K5035-1R
footprint Ê50-35-0511_K5035-1R1
footprint Ê50-35-0511_Primary
pins: 1, 2

## Ê50-35-22ÌÊÔ-16Â-Ã
designator C?  (value not drawn)
Value: *
footprint Ê50-35-0511-Ã_K5035-1R
footprint Ê50-35-0511-Ã_K5035-1R1
footprint Ê50-35-0511-Ã_Primary
pins: 1, 2

## Ê50-35-22ÌÊÔ-25Â
designator C?  (value not drawn)
Value: *
footprint Ê50-35-0511_K5035-1R
footprint Ê50-35-0511_K5035-1R1
footprint Ê50-35-0511_Primary
pins: 1, 2

## Ê50-35-22ÌÊÔ-25Â-Ã
designator C?  (value not drawn)
Value: *
footprint Ê50-35-0511-Ã_K5035-1R
footprint Ê50-35-0511-Ã_K5035-1R1
footprint Ê50-35-0511-Ã_Primary
pins: 1, 2

## Ê50-35-22ÌÊÔ-35Â
designator C?  (value not drawn)
Value: *
footprint Ê50-35-0511_K5035-1R
footprint Ê50-35-0511_K5035-1R1
footprint Ê50-35-0511_Primary
pins: 1, 2

## Ê50-35-22ÌÊÔ-35Â-Ã
designator C?  (value not drawn)
Value: *
footprint Ê50-35-0511-Ã_K5035-1R
footprint Ê50-35-0511-Ã_K5035-1R1
footprint Ê50-35-0511-Ã_Primary
pins: 1, 2

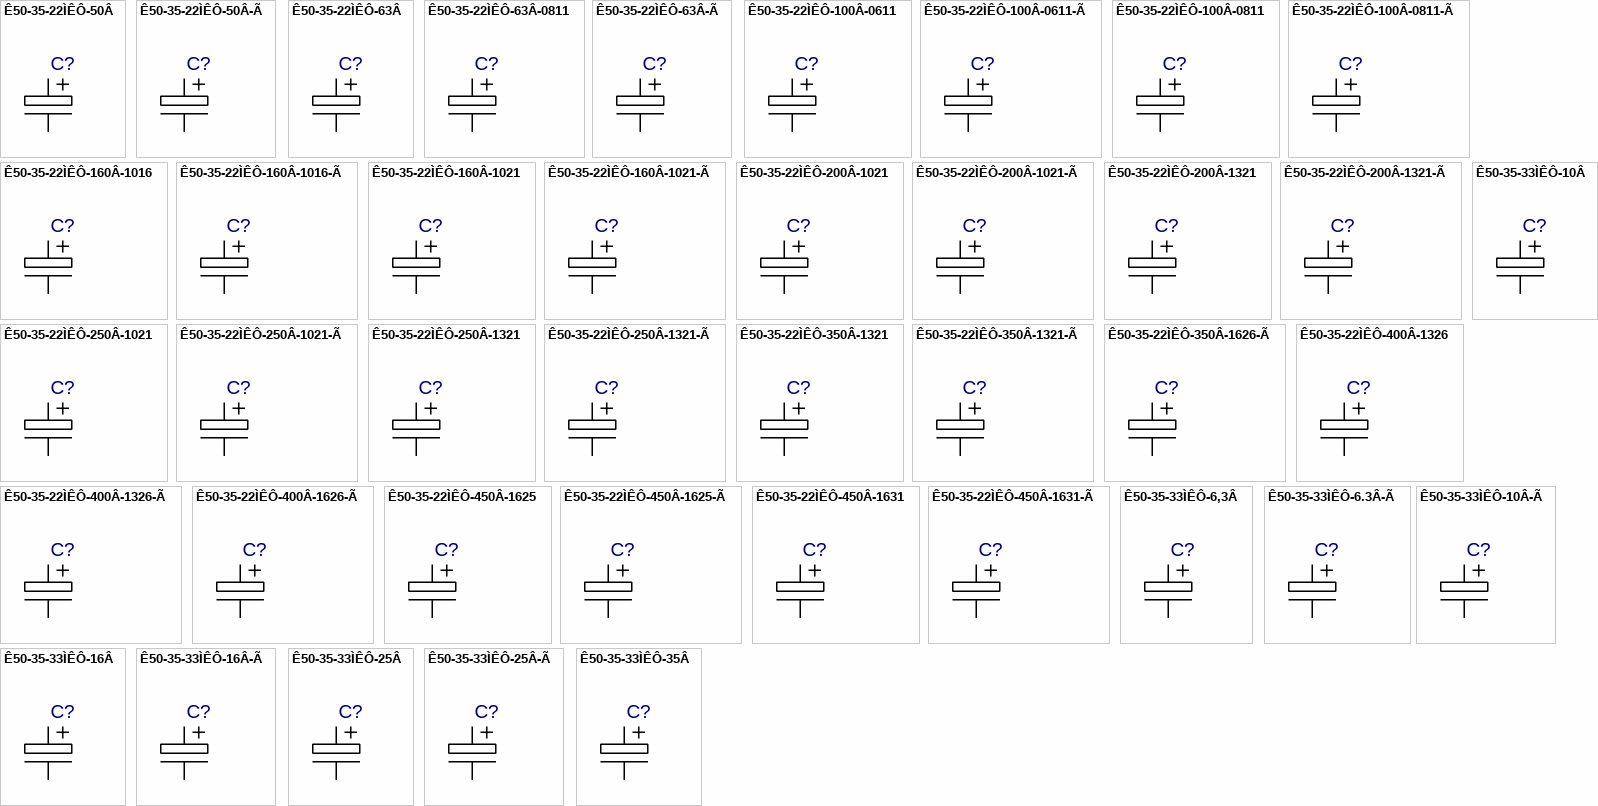
[diagram p26: symbols Ê50-35-22ÌÊÔ-50Â to Ê50-35-33ÌÊÔ-35Â]

## Ê50-35-22ÌÊÔ-50Â
designator C?  (value not drawn)
Value: *
footprint Ê50-35-0511_K5035-1R
footprint Ê50-35-0511_K5035-1R1
footprint Ê50-35-0511_Primary
pins: 1, 2

## Ê50-35-22ÌÊÔ-50Â-Ã
designator C?  (value not drawn)
Value: *
footprint Ê50-35-0511-Ã_K5035-1R
footprint Ê50-35-0511-Ã_K5035-1R1
footprint Ê50-35-0511-Ã_Primary
pins: 1, 2

## Ê50-35-22ÌÊÔ-63Â
designator C?  (value not drawn)
Value: *
footprint Ê50-35-0511_K5035-1R
footprint Ê50-35-0511_K5035-1R1
footprint Ê50-35-0511_Primary
pins: 1, 2

## Ê50-35-22ÌÊÔ-63Â-0811
designator C?  (value not drawn)
Value: *
footprint R50-35-08XX_K5035-2R
footprint R50-35-08XX_K5035-2R1
footprint R50-35-08XX_Primary
pins: 1, 2

## Ê50-35-22ÌÊÔ-63Â-Ã
designator C?  (value not drawn)
Value: *
footprint Ê50-35-0511-Ã_K5035-1R
footprint Ê50-35-0511-Ã_K5035-1R1
footprint Ê50-35-0511-Ã_Primary
pins: 1, 2

## Ê50-35-22ÌÊÔ-100Â-0611
designator C?  (value not drawn)
Value: *
footprint Ê50-35-0611_K5035-1R
footprint Ê50-35-0611_K5035-1R1
footprint Ê50-35-0611_Primary
pins: 1, 2

## Ê50-35-22ÌÊÔ-100Â-0611-Ã
designator C?  (value not drawn)
Value: *
footprint Ê50-35-0611-Ã_K5035-1R
footprint Ê50-35-0611-Ã_K5035-1R1
footprint Ê50-35-0611-Ã_Primary
pins: 1, 2

## Ê50-35-22ÌÊÔ-100Â-0811
designator C?  (value not drawn)
Value: *
footprint R50-35-08XX_K5035-2R
footprint R50-35-08XX_K5035-2R1
footprint R50-35-08XX_Primary
pins: 1, 2

## Ê50-35-22ÌÊÔ-100Â-0811-Ã
designator C?  (value not drawn)
Value: *
footprint Ê50-35-08XX-Ã_K5035-2R
footprint Ê50-35-08XX-Ã_K5035-2R1
footprint Ê50-35-08XX-Ã_Primary
pins: 1, 2

## Ê50-35-22ÌÊÔ-160Â-1016
designator C?  (value not drawn)
Value: *
footprint Ê50-35-1020_K5035-1R
footprint Ê50-35-1020_K5035-1R1
footprint Ê50-35-1020_Primary
pins: 1, 2

## Ê50-35-22ÌÊÔ-160Â-1016-Ã
designator C?  (value not drawn)
Value: *
footprint Ê50-35-1020-Ã_K5035-1R
footprint Ê50-35-1020-Ã_K5035-1R1
footprint Ê50-35-1020-Ã_Primary
pins: 1, 2

## Ê50-35-22ÌÊÔ-160Â-1021
designator C?  (value not drawn)
Value: *
footprint Ê50-35-1020_K5035-1R
footprint Ê50-35-1020_K5035-1R1
footprint Ê50-35-1020_Primary
pins: 1, 2

## Ê50-35-22ÌÊÔ-160Â-1021-Ã
designator C?  (value not drawn)
Value: *
footprint Ê50-35-1020-Ã_K5035-1R
footprint Ê50-35-1020-Ã_K5035-1R1
footprint Ê50-35-1020-Ã_Primary
pins: 1, 2

## Ê50-35-22ÌÊÔ-200Â-1021
designator C?  (value not drawn)
Value: *
footprint Ê50-35-1020_K5035-1R
footprint Ê50-35-1020_K5035-1R1
footprint Ê50-35-1020_Primary
pins: 1, 2

## Ê50-35-22ÌÊÔ-200Â-1021-Ã
designator C?  (value not drawn)
Value: *
footprint Ê50-35-1020-Ã_K5035-1R
footprint Ê50-35-1020-Ã_K5035-1R1
footprint Ê50-35-1020-Ã_Primary
pins: 1, 2

## Ê50-35-22ÌÊÔ-200Â-1321
designator C?  (value not drawn)
Value: *
footprint Ê50-35-1320_K5035-1R
footprint Ê50-35-1320_K5035-1R1
footprint Ê50-35-1320_Primary
pins: 1, 2

## Ê50-35-22ÌÊÔ-200Â-1321-Ã
designator C?  (value not drawn)
Value: *
footprint Ê50-35-13XX-Ã_K5035-1R
footprint Ê50-35-13XX-Ã_K5035-1R1
footprint Ê50-35-13XX-Ã_Primary
pins: 1, 2

## Ê50-35-22ÌÊÔ-250Â-1021
designator C?  (value not drawn)
Value: *
footprint Ê50-35-1020_K5035-1R
footprint Ê50-35-1020_K5035-1R1
footprint Ê50-35-1020_Primary
pins: 1, 2

## Ê50-35-22ÌÊÔ-250Â-1021-Ã
designator C?  (value not drawn)
Value: *
footprint Ê50-35-1020-Ã_K5035-1R
footprint Ê50-35-1020-Ã_K5035-1R1
footprint Ê50-35-1020-Ã_Primary
pins: 1, 2

## Ê50-35-22ÌÊÔ-250Â-1321
designator C?  (value not drawn)
Value: *
footprint Ê50-35-1320_K5035-1R
footprint Ê50-35-1320_K5035-1R1
footprint Ê50-35-1320_Primary
pins: 1, 2

## Ê50-35-22ÌÊÔ-250Â-1321-Ã
designator C?  (value not drawn)
Value: *
footprint Ê50-35-13XX-Ã_K5035-1R
footprint Ê50-35-13XX-Ã_K5035-1R1
footprint Ê50-35-13XX-Ã_Primary
pins: 1, 2

## Ê50-35-22ÌÊÔ-350Â-1321
designator C?  (value not drawn)
Value: *
footprint Ê50-35-1320_K5035-1R
footprint Ê50-35-1320_K5035-1R1
footprint Ê50-35-1320_Primary
pins: 1, 2

## Ê50-35-22ÌÊÔ-350Â-1321-Ã
designator C?  (value not drawn)
Value: *
footprint Ê50-35-13XX-Ã_K5035-1R
footprint Ê50-35-13XX-Ã_K5035-1R1
footprint Ê50-35-13XX-Ã_Primary
pins: 1, 2

## Ê50-35-22ÌÊÔ-350Â-1626-Ã
designator C?  (value not drawn)
Value: *
footprint Ê50-35-16XX-Ã_K5035-1R
footprint Ê50-35-16XX-Ã_K5035-1R1
footprint Ê50-35-16XX-Ã_Primary
pins: 1, 2

## Ê50-35-22ÌÊÔ-400Â-1326
designator C?  (value not drawn)
Value: *
footprint Ê50-35-1320_K5035-1R
footprint Ê50-35-1320_K5035-1R1
footprint Ê50-35-1320_Primary
pins: 1, 2

## Ê50-35-22ÌÊÔ-400Â-1326-Ã
designator C?  (value not drawn)
Value: *
footprint Ê50-35-13XX-Ã_K5035-1R
footprint Ê50-35-13XX-Ã_K5035-1R1
footprint Ê50-35-13XX-Ã_Primary
pins: 1, 2

## Ê50-35-22ÌÊÔ-400Â-1626-Ã
designator C?  (value not drawn)
Value: *
footprint Ê50-35-16XX-Ã_K5035-1R
footprint Ê50-35-16XX-Ã_K5035-1R1
footprint Ê50-35-16XX-Ã_Primary
pins: 1, 2

## Ê50-35-22ÌÊÔ-450Â-1625
designator C?  (value not drawn)
Value: *
footprint Ê50-35-1625_K5035-1R
footprint Ê50-35-1625_K5035-1R1
footprint Ê50-35-1625_Primary
pins: 1, 2

## Ê50-35-22ÌÊÔ-450Â-1625-Ã
designator C?  (value not drawn)
Value: *
footprint Ê50-35-16XX-Ã_K5035-1R
footprint Ê50-35-16XX-Ã_K5035-1R1
footprint Ê50-35-16XX-Ã_Primary
pins: 1, 2

## Ê50-35-22ÌÊÔ-450Â-1631
designator C?  (value not drawn)
Value: *
footprint Ê50-35-1625_K5035-1R
footprint Ê50-35-1625_K5035-1R1
footprint Ê50-35-1625_Primary
pins: 1, 2

## Ê50-35-22ÌÊÔ-450Â-1631-Ã
designator C?  (value not drawn)
Value: *
footprint Ê50-35-16XX-Ã_K5035-1R
footprint Ê50-35-16XX-Ã_K5035-1R1
footprint Ê50-35-16XX-Ã_Primary
pins: 1, 2

## Ê50-35-33ÌÊÔ-6,3Â
designator C?  (value not drawn)
Value: *
footprint Ê50-35-0511_K5035-1R
footprint Ê50-35-0511_K5035-1R1
footprint Ê50-35-0511_Primary
pins: 1, 2

## Ê50-35-33ÌÊÔ-6.3Â-Ã
designator C?  (value not drawn)
Value: *
footprint Ê50-35-0511-Ã_K5035-1R
footprint Ê50-35-0511-Ã_K5035-1R1
footprint Ê50-35-0511-Ã_Primary
pins: 1, 2

## Ê50-35-33ÌÊÔ-10Â
designator C?  (value not drawn)
Value: *
footprint Ê50-35-0511_K5035-1R
footprint Ê50-35-0511_K5035-1R1
footprint Ê50-35-0511_Primary
pins: 1, 2

## Ê50-35-33ÌÊÔ-10Â-Ã
designator C?  (value not drawn)
Value: *
footprint Ê50-35-0511-Ã_K5035-1R
footprint Ê50-35-0511-Ã_K5035-1R1
footprint Ê50-35-0511-Ã_Primary
pins: 1, 2

## Ê50-35-33ÌÊÔ-16Â
designator C?  (value not drawn)
Value: *
footprint Ê50-35-0511_K5035-1R
footprint Ê50-35-0511_K5035-1R1
footprint Ê50-35-0511_Primary
pins: 1, 2

## Ê50-35-33ÌÊÔ-16Â-Ã
designator C?  (value not drawn)
Value: *
footprint Ê50-35-0511-Ã_K5035-1R
footprint Ê50-35-0511-Ã_K5035-1R1
footprint Ê50-35-0511-Ã_Primary
pins: 1, 2

## Ê50-35-33ÌÊÔ-25Â
designator C?  (value not drawn)
Value: *
footprint Ê50-35-0511_K5035-1R
footprint Ê50-35-0511_K5035-1R1
footprint Ê50-35-0511_Primary
pins: 1, 2

## Ê50-35-33ÌÊÔ-25Â-Ã
designator C?  (value not drawn)
Value: *
footprint Ê50-35-0511-Ã_K5035-1R
footprint Ê50-35-0511-Ã_K5035-1R1
footprint Ê50-35-0511-Ã_Primary
pins: 1, 2

## Ê50-35-33ÌÊÔ-35Â
designator C?  (value not drawn)
Value: *
footprint Ê50-35-0511_K5035-1R
footprint Ê50-35-0511_K5035-1R1
footprint Ê50-35-0511_Primary
pins: 1, 2

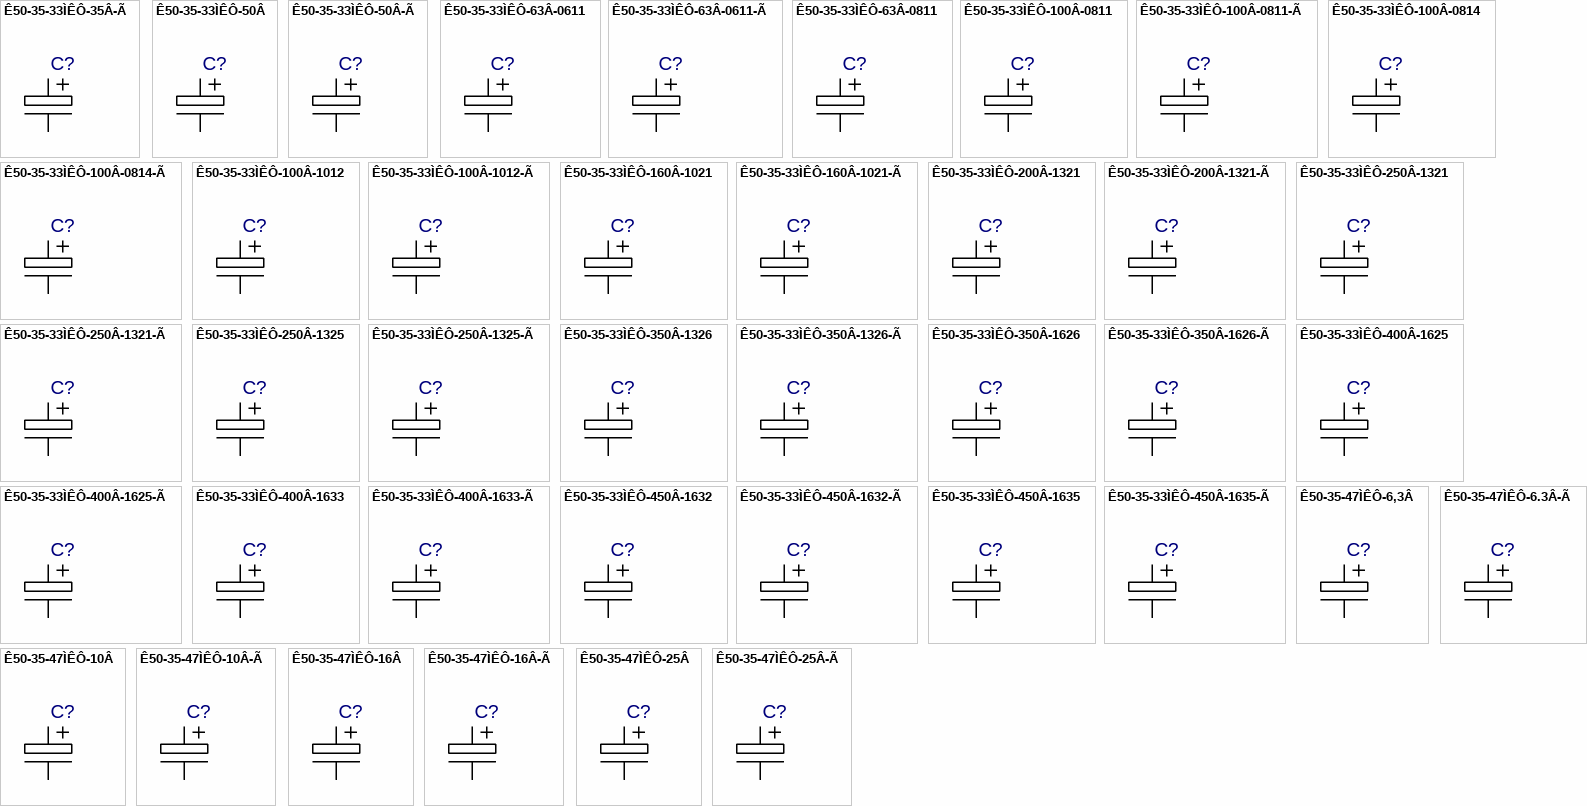
[diagram p27: symbols Ê50-35-33ÌÊÔ-35Â-Ã to Ê50-35-47ÌÊÔ-25Â-Ã]

## Ê50-35-33ÌÊÔ-35Â-Ã
designator C?  (value not drawn)
Value: *
footprint Ê50-35-0511-Ã_K5035-1R
footprint Ê50-35-0511-Ã_K5035-1R1
footprint Ê50-35-0511-Ã_Primary
pins: 1, 2

## Ê50-35-33ÌÊÔ-50Â
designator C?  (value not drawn)
Value: *
footprint Ê50-35-0511_K5035-1R
footprint Ê50-35-0511_K5035-1R1
footprint Ê50-35-0511_Primary
pins: 1, 2

## Ê50-35-33ÌÊÔ-50Â-Ã
designator C?  (value not drawn)
Value: *
footprint Ê50-35-0511-Ã_K5035-1R
footprint Ê50-35-0511-Ã_K5035-1R1
footprint Ê50-35-0511-Ã_Primary
pins: 1, 2

## Ê50-35-33ÌÊÔ-63Â-0611
designator C?  (value not drawn)
Value: *
footprint Ê50-35-0611_K5035-1R
footprint Ê50-35-0611_K5035-1R1
footprint Ê50-35-0611_Primary
pins: 1, 2

## Ê50-35-33ÌÊÔ-63Â-0611-Ã
designator C?  (value not drawn)
Value: *
footprint Ê50-35-0611-Ã_K5035-1R
footprint Ê50-35-0611-Ã_K5035-1R1
footprint Ê50-35-0611-Ã_Primary
pins: 1, 2

## Ê50-35-33ÌÊÔ-63Â-0811
designator C?  (value not drawn)
Value: *
footprint R50-35-08XX_K5035-2R
footprint R50-35-08XX_K5035-2R1
footprint R50-35-08XX_Primary
pins: 1, 2

## Ê50-35-33ÌÊÔ-100Â-0811
designator C?  (value not drawn)
Value: *
footprint R50-35-08XX_K5035-2R
footprint R50-35-08XX_K5035-2R1
footprint R50-35-08XX_Primary
pins: 1, 2

## Ê50-35-33ÌÊÔ-100Â-0811-Ã
designator C?  (value not drawn)
Value: *
footprint Ê50-35-08XX-Ã_K5035-2R
footprint Ê50-35-08XX-Ã_K5035-2R1
footprint Ê50-35-08XX-Ã_Primary
pins: 1, 2

## Ê50-35-33ÌÊÔ-100Â-0814
designator C?  (value not drawn)
Value: *
footprint R50-35-08XX_K5035-2R
footprint R50-35-08XX_K5035-2R1
footprint R50-35-08XX_Primary
pins: 1, 2

## Ê50-35-33ÌÊÔ-100Â-0814-Ã
designator C?  (value not drawn)
Value: *
footprint Ê50-35-08XX-Ã_K5035-2R
footprint Ê50-35-08XX-Ã_K5035-2R1
footprint Ê50-35-08XX-Ã_Primary
pins: 1, 2

## Ê50-35-33ÌÊÔ-100Â-1012
designator C?  (value not drawn)
Value: *
footprint Ê50-35-1020_K5035-1R
footprint Ê50-35-1020_K5035-1R1
footprint Ê50-35-1020_Primary
pins: 1, 2

## Ê50-35-33ÌÊÔ-100Â-1012-Ã
designator C?  (value not drawn)
Value: *
footprint Ê50-35-1020-Ã_K5035-1R
footprint Ê50-35-1020-Ã_K5035-1R1
footprint Ê50-35-1020-Ã_Primary
pins: 1, 2

## Ê50-35-33ÌÊÔ-160Â-1021
designator C?  (value not drawn)
Value: *
footprint Ê50-35-1020_K5035-1R
footprint Ê50-35-1020_K5035-1R1
footprint Ê50-35-1020_Primary
pins: 1, 2

## Ê50-35-33ÌÊÔ-160Â-1021-Ã
designator C?  (value not drawn)
Value: *
footprint Ê50-35-1020-Ã_K5035-1R
footprint Ê50-35-1020-Ã_K5035-1R1
footprint Ê50-35-1020-Ã_Primary
pins: 1, 2

## Ê50-35-33ÌÊÔ-200Â-1321
designator C?  (value not drawn)
Value: *
footprint Ê50-35-1320_K5035-1R
footprint Ê50-35-1320_K5035-1R1
footprint Ê50-35-1320_Primary
pins: 1, 2

## Ê50-35-33ÌÊÔ-200Â-1321-Ã
designator C?  (value not drawn)
Value: *
footprint Ê50-35-13XX-Ã_K5035-1R
footprint Ê50-35-13XX-Ã_K5035-1R1
footprint Ê50-35-13XX-Ã_Primary
pins: 1, 2

## Ê50-35-33ÌÊÔ-250Â-1321
designator C?  (value not drawn)
Value: *
footprint Ê50-35-1320_K5035-1R
footprint Ê50-35-1320_K5035-1R1
footprint Ê50-35-1320_Primary
pins: 1, 2

## Ê50-35-33ÌÊÔ-250Â-1321-Ã
designator C?  (value not drawn)
Value: *
footprint Ê50-35-13XX-Ã_K5035-1R
footprint Ê50-35-13XX-Ã_K5035-1R1
footprint Ê50-35-13XX-Ã_Primary
pins: 1, 2

## Ê50-35-33ÌÊÔ-250Â-1325
designator C?  (value not drawn)
Value: *
footprint Ê50-35-1320_K5035-1R
footprint Ê50-35-1320_K5035-1R1
footprint Ê50-35-1320_Primary
pins: 1, 2

## Ê50-35-33ÌÊÔ-250Â-1325-Ã
designator C?  (value not drawn)
Value: *
footprint Ê50-35-13XX-Ã_K5035-1R
footprint Ê50-35-13XX-Ã_K5035-1R1
footprint Ê50-35-13XX-Ã_Primary
pins: 1, 2

## Ê50-35-33ÌÊÔ-350Â-1326
designator C?  (value not drawn)
Value: *
footprint Ê50-35-1320_K5035-1R
footprint Ê50-35-1320_K5035-1R1
footprint Ê50-35-1320_Primary
pins: 1, 2

## Ê50-35-33ÌÊÔ-350Â-1326-Ã
designator C?  (value not drawn)
Value: *
footprint Ê50-35-13XX-Ã_K5035-1R
footprint Ê50-35-13XX-Ã_K5035-1R1
footprint Ê50-35-13XX-Ã_Primary
pins: 1, 2

## Ê50-35-33ÌÊÔ-350Â-1626
designator C?  (value not drawn)
Value: *
footprint Ê50-35-1625_K5035-1R
footprint Ê50-35-1625_K5035-1R1
footprint Ê50-35-1625_Primary
pins: 1, 2

## Ê50-35-33ÌÊÔ-350Â-1626-Ã
designator C?  (value not drawn)
Value: *
footprint Ê50-35-16XX-Ã_K5035-1R
footprint Ê50-35-16XX-Ã_K5035-1R1
footprint Ê50-35-16XX-Ã_Primary
pins: 1, 2

## Ê50-35-33ÌÊÔ-400Â-1625
designator C?  (value not drawn)
Value: *
footprint Ê50-35-1625_K5035-1R
footprint Ê50-35-1625_K5035-1R1
footprint Ê50-35-1625_Primary
pins: 1, 2

## Ê50-35-33ÌÊÔ-400Â-1625-Ã
designator C?  (value not drawn)
Value: *
footprint Ê50-35-16XX-Ã_K5035-1R
footprint Ê50-35-16XX-Ã_K5035-1R1
footprint Ê50-35-16XX-Ã_Primary
pins: 1, 2

## Ê50-35-33ÌÊÔ-400Â-1633
designator C?  (value not drawn)
Value: *
footprint Ê50-35-1625_K5035-1R
footprint Ê50-35-1625_K5035-1R1
footprint Ê50-35-1625_Primary
pins: 1, 2

## Ê50-35-33ÌÊÔ-400Â-1633-Ã
designator C?  (value not drawn)
Value: *
footprint Ê50-35-16XX-Ã_K5035-1R
footprint Ê50-35-16XX-Ã_K5035-1R1
footprint Ê50-35-16XX-Ã_Primary
pins: 1, 2

## Ê50-35-33ÌÊÔ-450Â-1632
designator C?  (value not drawn)
Value: *
footprint Ê50-35-1625_K5035-1R
footprint Ê50-35-1625_K5035-1R1
footprint Ê50-35-1625_Primary
pins: 1, 2

## Ê50-35-33ÌÊÔ-450Â-1632-Ã
designator C?  (value not drawn)
Value: *
footprint Ê50-35-16XX-Ã_K5035-1R
footprint Ê50-35-16XX-Ã_K5035-1R1
footprint Ê50-35-16XX-Ã_Primary
pins: 1, 2

## Ê50-35-33ÌÊÔ-450Â-1635
designator C?  (value not drawn)
Value: *
footprint Ê50-35-1625_K5035-1R
footprint Ê50-35-1625_K5035-1R1
footprint Ê50-35-1625_Primary
pins: 1, 2

## Ê50-35-33ÌÊÔ-450Â-1635-Ã
designator C?  (value not drawn)
Value: *
footprint Ê50-35-16XX-Ã_K5035-1R
footprint Ê50-35-16XX-Ã_K5035-1R1
footprint Ê50-35-16XX-Ã_Primary
pins: 1, 2

## Ê50-35-47ÌÊÔ-6,3Â
designator C?  (value not drawn)
Value: *
footprint Ê50-35-0511_K5035-1R
footprint Ê50-35-0511_K5035-1R1
footprint Ê50-35-0511_Primary
pins: 1, 2

## Ê50-35-47ÌÊÔ-6.3Â-Ã
designator C?  (value not drawn)
Value: *
footprint Ê50-35-0511-Ã_K5035-1R
footprint Ê50-35-0511-Ã_K5035-1R1
footprint Ê50-35-0511-Ã_Primary
pins: 1, 2

## Ê50-35-47ÌÊÔ-10Â
designator C?  (value not drawn)
Value: *
footprint Ê50-35-0511_K5035-1R
footprint Ê50-35-0511_K5035-1R1
footprint Ê50-35-0511_Primary
pins: 1, 2

## Ê50-35-47ÌÊÔ-10Â-Ã
designator C?  (value not drawn)
Value: *
footprint Ê50-35-0511-Ã_K5035-1R
footprint Ê50-35-0511-Ã_K5035-1R1
footprint Ê50-35-0511-Ã_Primary
pins: 1, 2

## Ê50-35-47ÌÊÔ-16Â
designator C?  (value not drawn)
Value: *
footprint Ê50-35-0511_K5035-1R
footprint Ê50-35-0511_K5035-1R1
footprint Ê50-35-0511_Primary
pins: 1, 2

## Ê50-35-47ÌÊÔ-16Â-Ã
designator C?  (value not drawn)
Value: *
footprint Ê50-35-0511-Ã_K5035-1R
footprint Ê50-35-0511-Ã_K5035-1R1
footprint Ê50-35-0511-Ã_Primary
pins: 1, 2

## Ê50-35-47ÌÊÔ-25Â
designator C?  (value not drawn)
Value: *
footprint Ê50-35-0511_K5035-1R
footprint Ê50-35-0511_K5035-1R1
footprint Ê50-35-0511_Primary
pins: 1, 2

## Ê50-35-47ÌÊÔ-25Â-Ã
designator C?  (value not drawn)
Value: *
footprint Ê50-35-0511-Ã_K5035-1R
footprint Ê50-35-0511-Ã_K5035-1R1
footprint Ê50-35-0511-Ã_Primary
pins: 1, 2

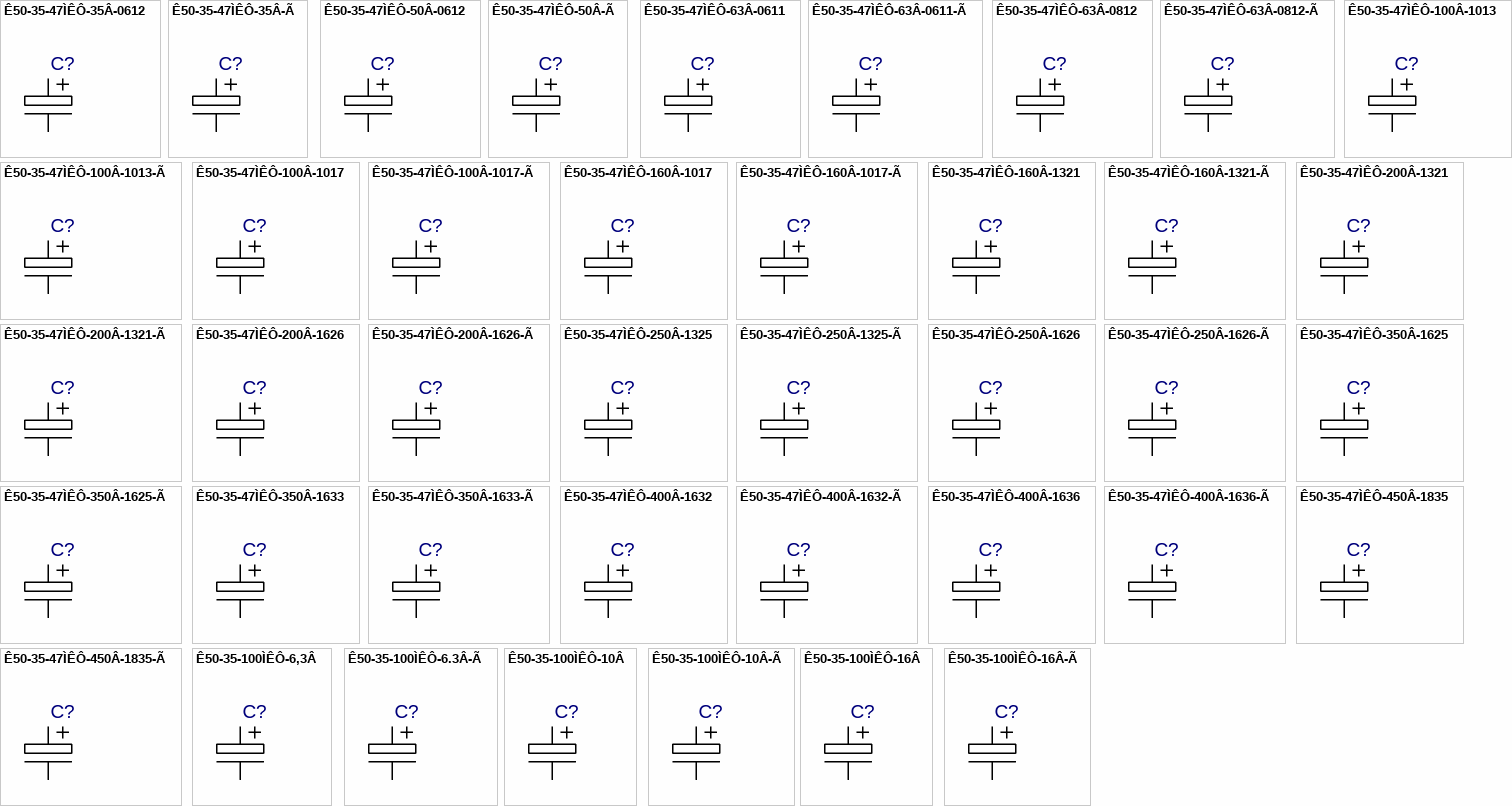
[diagram p28: symbols Ê50-35-47ÌÊÔ-35Â-0612 to Ê50-35-100ÌÊÔ-16Â-Ã]

## Ê50-35-47ÌÊÔ-35Â-0612
designator C?  (value not drawn)
Value: *
footprint Ê50-35-0611_K5035-1R
footprint Ê50-35-0611_K5035-1R1
footprint Ê50-35-0611_Primary
pins: 1, 2

## Ê50-35-47ÌÊÔ-35Â-Ã
designator C?  (value not drawn)
Value: *
footprint Ê50-35-0611-Ã_K5035-1R
footprint Ê50-35-0611-Ã_K5035-1R1
footprint Ê50-35-0611-Ã_Primary
pins: 1, 2

## Ê50-35-47ÌÊÔ-50Â-0612
designator C?  (value not drawn)
Value: *
footprint Ê50-35-0611_K5035-1R
footprint Ê50-35-0611_K5035-1R1
footprint Ê50-35-0611_Primary
pins: 1, 2

## Ê50-35-47ÌÊÔ-50Â-Ã
designator C?  (value not drawn)
Value: *
footprint Ê50-35-0611-Ã_K5035-1R
footprint Ê50-35-0611-Ã_K5035-1R1
footprint Ê50-35-0611-Ã_Primary
pins: 1, 2

## Ê50-35-47ÌÊÔ-63Â-0611
designator C?  (value not drawn)
Value: *
footprint Ê50-35-0611_K5035-1R
footprint Ê50-35-0611_K5035-1R1
footprint Ê50-35-0611_Primary
pins: 1, 2

## Ê50-35-47ÌÊÔ-63Â-0611-Ã
designator C?  (value not drawn)
Value: *
footprint Ê50-35-0611-Ã_K5035-1R
footprint Ê50-35-0611-Ã_K5035-1R1
footprint Ê50-35-0611-Ã_Primary
pins: 1, 2

## Ê50-35-47ÌÊÔ-63Â-0812
designator C?  (value not drawn)
Value: *
footprint R50-35-08XX_K5035-2R
footprint R50-35-08XX_K5035-2R1
footprint R50-35-08XX_Primary
pins: 1, 2

## Ê50-35-47ÌÊÔ-63Â-0812-Ã
designator C?  (value not drawn)
Value: *
footprint Ê50-35-08XX-Ã_K5035-2R
footprint Ê50-35-08XX-Ã_K5035-2R1
footprint Ê50-35-08XX-Ã_Primary
pins: 1, 2

## Ê50-35-47ÌÊÔ-100Â-1013
designator C?  (value not drawn)
Value: *
footprint Ê50-35-1020_K5035-1R
footprint Ê50-35-1020_K5035-1R1
footprint Ê50-35-1020_Primary
pins: 1, 2

## Ê50-35-47ÌÊÔ-100Â-1013-Ã
designator C?  (value not drawn)
Value: *
footprint Ê50-35-1020-Ã_K5035-1R
footprint Ê50-35-1020-Ã_K5035-1R1
footprint Ê50-35-1020-Ã_Primary
pins: 1, 2

## Ê50-35-47ÌÊÔ-100Â-1017
designator C?  (value not drawn)
Value: *
footprint Ê50-35-1020_K5035-1R
footprint Ê50-35-1020_K5035-1R1
footprint Ê50-35-1020_Primary
pins: 1, 2

## Ê50-35-47ÌÊÔ-100Â-1017-Ã
designator C?  (value not drawn)
Value: *
footprint Ê50-35-1020-Ã_K5035-1R
footprint Ê50-35-1020-Ã_K5035-1R1
footprint Ê50-35-1020-Ã_Primary
pins: 1, 2

## Ê50-35-47ÌÊÔ-160Â-1017
designator C?  (value not drawn)
Value: *
footprint Ê50-35-1020_K5035-1R
footprint Ê50-35-1020_K5035-1R1
footprint Ê50-35-1020_Primary
pins: 1, 2

## Ê50-35-47ÌÊÔ-160Â-1017-Ã
designator C?  (value not drawn)
Value: *
footprint Ê50-35-1020-Ã_K5035-1R
footprint Ê50-35-1020-Ã_K5035-1R1
footprint Ê50-35-1020-Ã_Primary
pins: 1, 2

## Ê50-35-47ÌÊÔ-160Â-1321
designator C?  (value not drawn)
Value: *
footprint Ê50-35-1320_K5035-1R
footprint Ê50-35-1320_K5035-1R1
footprint Ê50-35-1320_Primary
pins: 1, 2

## Ê50-35-47ÌÊÔ-160Â-1321-Ã
designator C?  (value not drawn)
Value: *
footprint Ê50-35-13XX-Ã_K5035-1R
footprint Ê50-35-13XX-Ã_K5035-1R1
footprint Ê50-35-13XX-Ã_Primary
pins: 1, 2

## Ê50-35-47ÌÊÔ-200Â-1321
designator C?  (value not drawn)
Value: *
footprint Ê50-35-1320_K5035-1R
footprint Ê50-35-1320_K5035-1R1
footprint Ê50-35-1320_Primary
pins: 1, 2

## Ê50-35-47ÌÊÔ-200Â-1321-Ã
designator C?  (value not drawn)
Value: *
footprint Ê50-35-13XX-Ã_K5035-1R
footprint Ê50-35-13XX-Ã_K5035-1R1
footprint Ê50-35-13XX-Ã_Primary
pins: 1, 2

## Ê50-35-47ÌÊÔ-200Â-1626
designator C?  (value not drawn)
Value: *
footprint Ê50-35-1625_K5035-1R
footprint Ê50-35-1625_K5035-1R1
footprint Ê50-35-1625_Primary
pins: 1, 2

## Ê50-35-47ÌÊÔ-200Â-1626-Ã
designator C?  (value not drawn)
Value: *
footprint Ê50-35-16XX-Ã_K5035-1R
footprint Ê50-35-16XX-Ã_K5035-1R1
footprint Ê50-35-16XX-Ã_Primary
pins: 1, 2

## Ê50-35-47ÌÊÔ-250Â-1325
designator C?  (value not drawn)
Value: *
footprint Ê50-35-1320_K5035-1R
footprint Ê50-35-1320_K5035-1R1
footprint Ê50-35-1320_Primary
pins: 1, 2

## Ê50-35-47ÌÊÔ-250Â-1325-Ã
designator C?  (value not drawn)
Value: *
footprint Ê50-35-13XX-Ã_K5035-1R
footprint Ê50-35-13XX-Ã_K5035-1R1
footprint Ê50-35-13XX-Ã_Primary
pins: 1, 2

## Ê50-35-47ÌÊÔ-250Â-1626
designator C?  (value not drawn)
Value: *
footprint Ê50-35-1625_K5035-1R
footprint Ê50-35-1625_K5035-1R1
footprint Ê50-35-1625_Primary
pins: 1, 2

## Ê50-35-47ÌÊÔ-250Â-1626-Ã
designator C?  (value not drawn)
Value: *
footprint Ê50-35-16XX-Ã_K5035-1R
footprint Ê50-35-16XX-Ã_K5035-1R1
footprint Ê50-35-16XX-Ã_Primary
pins: 1, 2

## Ê50-35-47ÌÊÔ-350Â-1625
designator C?  (value not drawn)
Value: *
footprint Ê50-35-1625_K5035-1R
footprint Ê50-35-1625_K5035-1R1
footprint Ê50-35-1625_Primary
pins: 1, 2

## Ê50-35-47ÌÊÔ-350Â-1625-Ã
designator C?  (value not drawn)
Value: *
footprint Ê50-35-16XX-Ã_K5035-1R
footprint Ê50-35-16XX-Ã_K5035-1R1
footprint Ê50-35-16XX-Ã_Primary
pins: 1, 2

## Ê50-35-47ÌÊÔ-350Â-1633
designator C?  (value not drawn)
Value: *
footprint Ê50-35-1625_K5035-1R
footprint Ê50-35-1625_K5035-1R1
footprint Ê50-35-1625_Primary
pins: 1, 2

## Ê50-35-47ÌÊÔ-350Â-1633-Ã
designator C?  (value not drawn)
Value: *
footprint Ê50-35-16XX-Ã_K5035-1R
footprint Ê50-35-16XX-Ã_K5035-1R1
footprint Ê50-35-16XX-Ã_Primary
pins: 1, 2

## Ê50-35-47ÌÊÔ-400Â-1632
designator C?  (value not drawn)
Value: *
footprint Ê50-35-1625_K5035-1R
footprint Ê50-35-1625_K5035-1R1
footprint Ê50-35-1625_Primary
pins: 1, 2

## Ê50-35-47ÌÊÔ-400Â-1632-Ã
designator C?  (value not drawn)
Value: *
footprint Ê50-35-16XX-Ã_K5035-1R
footprint Ê50-35-16XX-Ã_K5035-1R1
footprint Ê50-35-16XX-Ã_Primary
pins: 1, 2

## Ê50-35-47ÌÊÔ-400Â-1636
designator C?  (value not drawn)
Value: *
footprint Ê50-35-1625_K5035-1R
footprint Ê50-35-1625_K5035-1R1
footprint Ê50-35-1625_Primary
pins: 1, 2

## Ê50-35-47ÌÊÔ-400Â-1636-Ã
designator C?  (value not drawn)
Value: *
footprint Ê50-35-16XX-Ã_K5035-1R
footprint Ê50-35-16XX-Ã_K5035-1R1
footprint Ê50-35-16XX-Ã_Primary
pins: 1, 2

## Ê50-35-47ÌÊÔ-450Â-1835
designator C?  (value not drawn)
Value: *
footprint Ê50-35-1835_K5035-1R
footprint Ê50-35-1835_K5035-1R1
footprint Ê50-35-1835_Primary
pins: 1, 2

## Ê50-35-47ÌÊÔ-450Â-1835-Ã
designator C?  (value not drawn)
Value: *
footprint Ê50-35-18XX-Ã_K5035-1R
footprint Ê50-35-18XX-Ã_K5035-1R1
footprint Ê50-35-18XX-Ã_Primary
pins: 1, 2

## Ê50-35-100ÌÊÔ-6,3Â
designator C?  (value not drawn)
Value: *
footprint Ê50-35-0511_K5035-1R
footprint Ê50-35-0511_K5035-1R1
footprint Ê50-35-0511_Primary
pins: 1, 2

## Ê50-35-100ÌÊÔ-6.3Â-Ã
designator C?  (value not drawn)
Value: *
footprint Ê50-35-0511-Ã_K5035-1R
footprint Ê50-35-0511-Ã_K5035-1R1
footprint Ê50-35-0511-Ã_Primary
pins: 1, 2

## Ê50-35-100ÌÊÔ-10Â
designator C?  (value not drawn)
Value: *
footprint Ê50-35-0511_K5035-1R
footprint Ê50-35-0511_K5035-1R1
footprint Ê50-35-0511_Primary
pins: 1, 2

## Ê50-35-100ÌÊÔ-10Â-Ã
designator C?  (value not drawn)
Value: *
footprint Ê50-35-0511-Ã_K5035-1R
footprint Ê50-35-0511-Ã_K5035-1R1
footprint Ê50-35-0511-Ã_Primary
pins: 1, 2

## Ê50-35-100ÌÊÔ-16Â
designator C?  (value not drawn)
Value: *
footprint Ê50-35-0511_K5035-1R
footprint Ê50-35-0511_K5035-1R1
footprint Ê50-35-0511_Primary
pins: 1, 2

## Ê50-35-100ÌÊÔ-16Â-Ã
designator C?  (value not drawn)
Value: *
footprint Ê50-35-0511-Ã_K5035-1R
footprint Ê50-35-0511-Ã_K5035-1R1
footprint Ê50-35-0511-Ã_Primary
pins: 1, 2

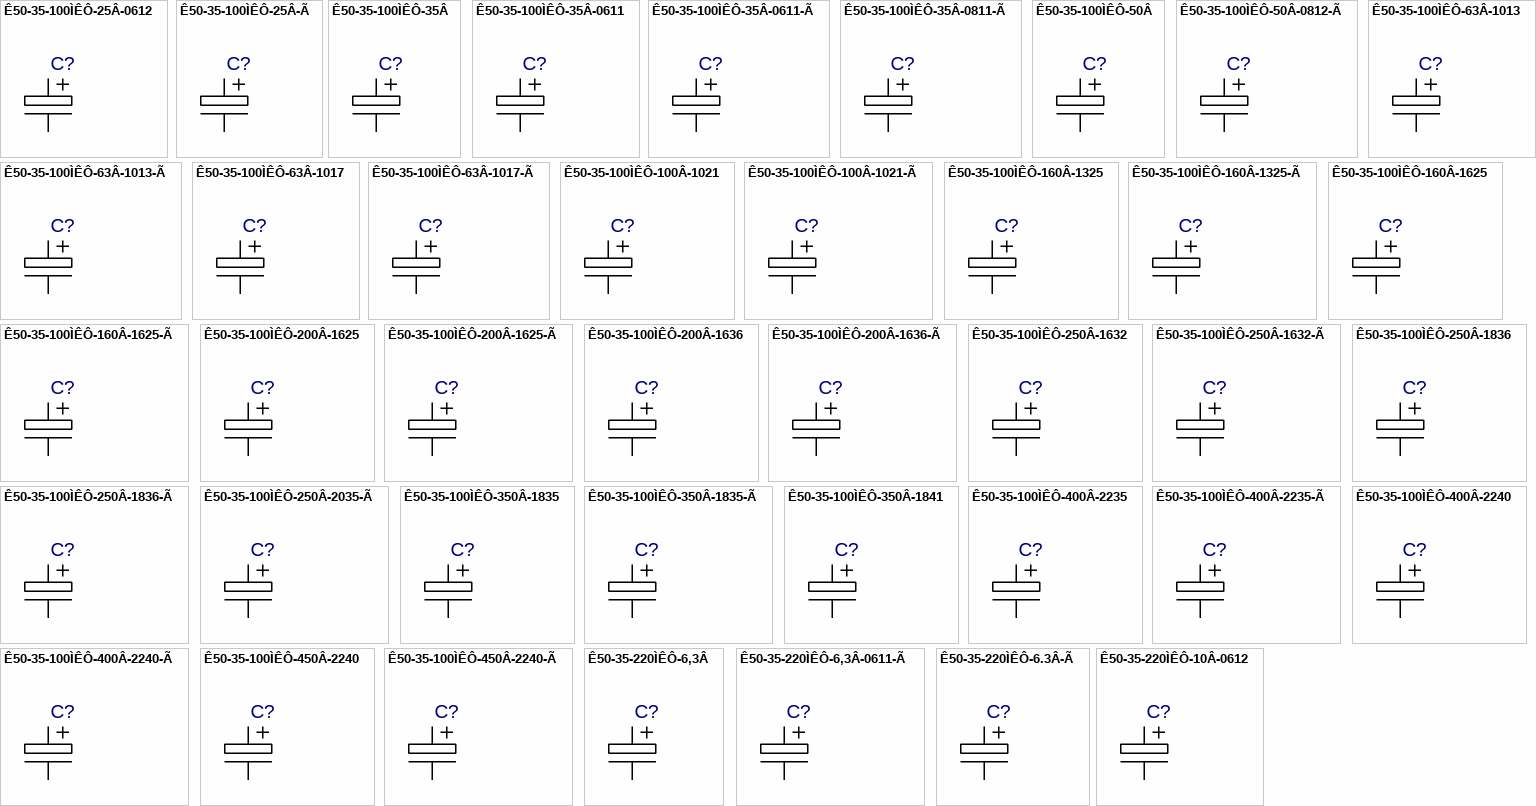
[diagram p29: symbols Ê50-35-100ÌÊÔ-25Â-0612 to Ê50-35-220ÌÊÔ-10Â-0612]

## Ê50-35-100ÌÊÔ-25Â-0612
designator C?  (value not drawn)
Value: *
footprint Ê50-35-0611_K5035-1R
footprint Ê50-35-0611_K5035-1R1
footprint Ê50-35-0611_Primary
pins: 1, 2

## Ê50-35-100ÌÊÔ-25Â-Ã
designator C?  (value not drawn)
Value: *
footprint Ê50-35-0611-Ã_K5035-1R
footprint Ê50-35-0611-Ã_K5035-1R1
footprint Ê50-35-0611-Ã_Primary
pins: 1, 2

## Ê50-35-100ÌÊÔ-35Â
designator C?  (value not drawn)
Value: *
footprint R50-35-08XX_K5035-2R
footprint R50-35-08XX_K5035-2R1
footprint R50-35-08XX_Primary
pins: 1, 2

## Ê50-35-100ÌÊÔ-35Â-0611
designator C?  (value not drawn)
Value: *
footprint Ê50-35-0611_K5035-1R
footprint Ê50-35-0611_K5035-1R1
footprint Ê50-35-0611_Primary
pins: 1, 2

## Ê50-35-100ÌÊÔ-35Â-0611-Ã
designator C?  (value not drawn)
Value: *
footprint Ê50-35-0611-Ã_K5035-1R
footprint Ê50-35-0611-Ã_K5035-1R1
footprint Ê50-35-0611-Ã_Primary
pins: 1, 2

## Ê50-35-100ÌÊÔ-35Â-0811-Ã
designator C?  (value not drawn)
Value: *
footprint Ê50-35-08XX-Ã_K5035-2R
footprint Ê50-35-08XX-Ã_K5035-2R1
footprint Ê50-35-08XX-Ã_Primary
pins: 1, 2

## Ê50-35-100ÌÊÔ-50Â
designator C?  (value not drawn)
Value: *
footprint R50-35-08XX_K5035-2R
footprint R50-35-08XX_K5035-2R1
footprint R50-35-08XX_Primary
pins: 1, 2

## Ê50-35-100ÌÊÔ-50Â-0812-Ã
designator C?  (value not drawn)
Value: *
footprint Ê50-35-08XX-Ã_K5035-2R
footprint Ê50-35-08XX-Ã_K5035-2R1
footprint Ê50-35-08XX-Ã_Primary
pins: 1, 2

## Ê50-35-100ÌÊÔ-63Â-1013
designator C?  (value not drawn)
Value: *
footprint Ê50-35-1020_K5035-1R
footprint Ê50-35-1020_K5035-1R1
footprint Ê50-35-1020_Primary
pins: 1, 2

## Ê50-35-100ÌÊÔ-63Â-1013-Ã
designator C?  (value not drawn)
Value: *
footprint Ê50-35-1020-Ã_K5035-1R
footprint Ê50-35-1020-Ã_K5035-1R1
footprint Ê50-35-1020-Ã_Primary
pins: 1, 2

## Ê50-35-100ÌÊÔ-63Â-1017
designator C?  (value not drawn)
Value: *
footprint Ê50-35-1020_K5035-1R
footprint Ê50-35-1020_K5035-1R1
footprint Ê50-35-1020_Primary
pins: 1, 2

## Ê50-35-100ÌÊÔ-63Â-1017-Ã
designator C?  (value not drawn)
Value: *
footprint Ê50-35-1020-Ã_K5035-1R
footprint Ê50-35-1020-Ã_K5035-1R1
footprint Ê50-35-1020-Ã_Primary
pins: 1, 2

## Ê50-35-100ÌÊÔ-100Â-1021
designator C?  (value not drawn)
Value: *
footprint Ê50-35-1020_K5035-1R
footprint Ê50-35-1020_K5035-1R1
footprint Ê50-35-1020_Primary
pins: 1, 2

## Ê50-35-100ÌÊÔ-100Â-1021-Ã
designator C?  (value not drawn)
Value: *
footprint Ê50-35-1020-Ã_K5035-1R
footprint Ê50-35-1020-Ã_K5035-1R1
footprint Ê50-35-1020-Ã_Primary
pins: 1, 2

## Ê50-35-100ÌÊÔ-160Â-1325
designator C?  (value not drawn)
Value: *
footprint Ê50-35-1320_K5035-1R
footprint Ê50-35-1320_K5035-1R1
footprint Ê50-35-1320_Primary
pins: 1, 2

## Ê50-35-100ÌÊÔ-160Â-1325-Ã
designator C?  (value not drawn)
Value: *
footprint Ê50-35-13XX-Ã_K5035-1R
footprint Ê50-35-13XX-Ã_K5035-1R1
footprint Ê50-35-13XX-Ã_Primary
pins: 1, 2

## Ê50-35-100ÌÊÔ-160Â-1625
designator C?  (value not drawn)
Value: *
footprint Ê50-35-1625_K5035-1R
footprint Ê50-35-1625_K5035-1R1
footprint Ê50-35-1625_Primary
pins: 1, 2

## Ê50-35-100ÌÊÔ-160Â-1625-Ã
designator C?  (value not drawn)
Value: *
footprint Ê50-35-16XX-Ã_K5035-1R
footprint Ê50-35-16XX-Ã_K5035-1R1
footprint Ê50-35-16XX-Ã_Primary
pins: 1, 2

## Ê50-35-100ÌÊÔ-200Â-1625
designator C?  (value not drawn)
Value: *
footprint Ê50-35-1625_K5035-1R
footprint Ê50-35-1625_K5035-1R1
footprint Ê50-35-1625_Primary
pins: 1, 2